# Altium schematic symbol library connecteurs.SchLib: 141 symbols
Pins are listed as number, name and electrical type; pins without a type are passive.

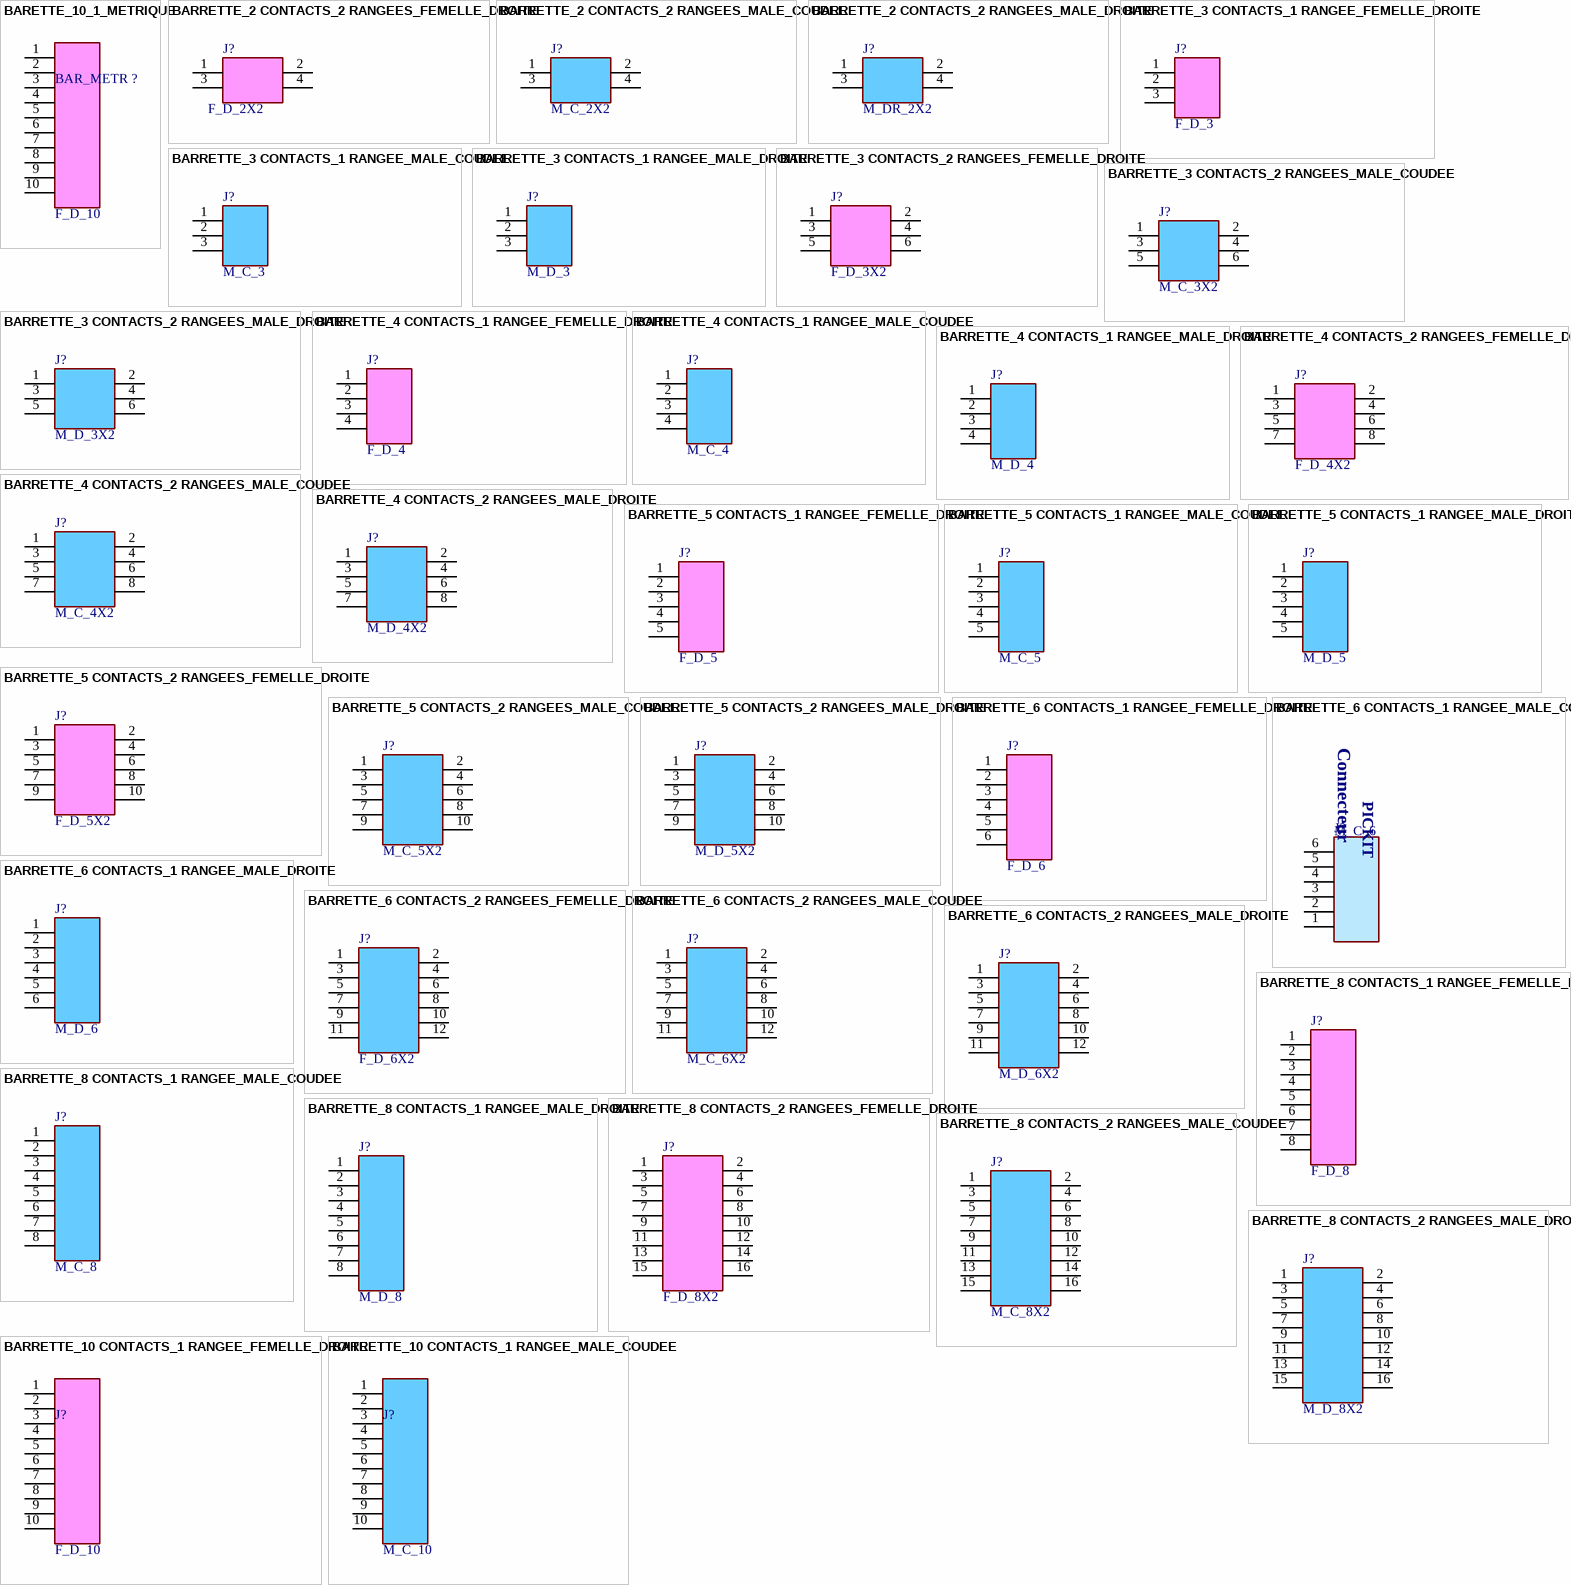
[diagram p0: symbols BARETTE_10_1_METRIQUE to BARRETTE_10 CONTACTS_1 RANGEE_MALE_COUDEE]

## BARETTE_10_1_METRIQUE
designator BAR_METR ?, comment Type: F_D_10  (hidden comment: BARRETTE_10 CONTACTS_1 BARETTE_10_1_METRIQUE)
BARETTE_10_1_METRIQUE
signal-integrity model Connector
footprint BARRETTE_10_F_D (BARRETTE 10 CONTACTS ; 1 RANGEE ; DROITE ; FEMELLE ; ESPACEMENT BROCHES = 2.54 mm)
pins: 1, 2, 3, 4, 5, 6, 7, 8, 9, 10

## BARRETTE_2 CONTACTS_2 RANGEES_FEMELLE_DROITE
designator J?, comment Type: F_D_2X2  (hidden comment: BARRETTE 2 CONTACTS 2 RANGEES FEMELLE DROITE)
signal-integrity model Connector
footprint BARRETTE_2X2_F_D (BARRETTE 2 CONTACTS ; 2 RANGEES ; DROITE ; FEMELLE ; ESPACEMENT BROCHES = 2.54 mm)
pins: 1, 2, 3, 4

## BARRETTE_2 CONTACTS_2 RANGEES_MALE_COUDEE
designator J?, comment Type: M_C_2X2  (hidden comment: BARRETTE 2 CONTACTS 2 RANGEES MALE COUDEE)
signal-integrity model Connector
footprint BARRETTE_2X2_M_C (BARRETTE 2 CONTACTS ; 2 RANGEES ; COUDEE ; MALE ; ESPACEMENT BROCHES = 2.54 mm)
pins: 1, 2, 3, 4

## BARRETTE_2 CONTACTS_2 RANGEES_MALE_DROITE
designator J?, comment Type: M_DR_2X2  (hidden comment: BARRETTE 2 CONTACTS 2 RANGEES MALE DROITE)
signal-integrity model Connector
footprint BARRETTE_2X2_M_D (BARRETTE 2 CONTACTS ; 2 RANGEES ; DROITE ; MALE ; ESPACEMENT BROCHES = 2.54 mm)
pins: 1, 2, 3, 4

## BARRETTE_3 CONTACTS_1 RANGEE_FEMELLE_DROITE
designator J?, comment Type: F_D_3  (hidden comment: BARRETTE 3 CONTACTS 1 RANGEE FEMELLE DROITE)
signal-integrity model Connector
footprint BARRETTE_3_F_D (BARRETTE 3 CONTACTS ; 1 RANGEE ; DROITE ; FEMELLE ; ESPACEMENT BROCHES = 2.54 mm)
pins: 1, 2, 3

## BARRETTE_3 CONTACTS_1 RANGEE_MALE_COUDEE
designator J?, comment Type: M_C_3  (hidden comment: BARRETTE 3 CONTACTS 1 RANGEE MALE COUDEE)
signal-integrity model Connector
footprint BARRETTE_3_M_C (BARRETTE 3 CONTACTS ; 1 RANGEE ; COUDEE ; MALE ; ESPACEMENT BROCHES = 2.54 mm)
pins: 1, 2, 3

## BARRETTE_3 CONTACTS_1 RANGEE_MALE_DROITE
designator J?, comment Type: M_D_3  (hidden comment: BARRETTE 3 CONTACTS 1 RANGEE MALE DROITE)
signal-integrity model Connector
footprint BARRETTE_3_M_D (BARRETTE 3 CONTACTS ; 1 RANGEE ; DROITE ; MALE ; ESPACEMENT BROCHES = 2.54 mm)
pins: 1, 2, 3

## BARRETTE_3 CONTACTS_2 RANGEES_FEMELLE_DROITE
designator J?  Type: F_D_3X2  (hidden comment: BARRETTE_3 CONTACTS_2 RANGEES_FEMELLE_DROITE)
BARRETTE 3 CONTACTS 2 RANGEES FEMELLE DROITE
signal-integrity model Connector
footprint BARRETTE_3X2_F_D (BARRETTE 3 CONTACTS ; 2 RANGEES ; DROITE ; FEMELLE ; ESPACEMENT BROCHES = 2.54 mm)
pins: 1, 2, 3, 4, 5, 6

## BARRETTE_3 CONTACTS_2 RANGEES_MALE_COUDEE
designator J?  Type: M_C_3X2  (hidden comment: BARRETTE_3 CONTACTS_2 RANGEES_MALE_COUDEE)
BARRETTE 3 CONTACTS 2 RANGEES MALE COUDEE
signal-integrity model Connector
footprint BARRETTE_3X2_M_C (BARRETTE 3 CONTACTS ; 2 RANGEES ; COUDEE ; MALE ; ESPACEMENT BROCHES = 2.54 mm)
pins: 1, 2, 3, 4, 5, 6

## BARRETTE_3 CONTACTS_2 RANGEES_MALE_DROITE
designator J?  Type: M_D_3X2  (hidden comment: BARRETTE_3 CONTACTS_2 RANGEES_MALE_DROITE)
BARRETTE 3 CONTACTS 2 RANGEES MALE DROITE
signal-integrity model Connector
footprint BARRETTE_3X2_M_D (BARRETTE 3 CONTACTS ; 2 RANGEES ; DROITE ; MALE ; ESPACEMENT BROCHES = 2.54 mm)
pins: 1, 2, 3, 4, 5, 6

## BARRETTE_4 CONTACTS_1 RANGEE_FEMELLE_DROITE
designator J?  Type: F_D_4  (hidden comment: BARRETTE_4 CONTACTS_1 RANGEE_FEMELLE_DROITE)
BARRETTE 4 CONTACTS 1 RANGEE FEMELLE DROITE
signal-integrity model Connector
footprint BARRETTE_4_F_D (BARRETTE 4 CONTACTS ; 1 RANGEE ; DROITE ; FEMELLE ; ESPACEMENT BROCHES = 2.54 mm)
pins: 1, 2, 3, 4

## BARRETTE_4 CONTACTS_1 RANGEE_MALE_COUDEE
designator J?  Type: M_C_4  (hidden comment: BARRETTE_4 CONTACTS_1 RANGEE_MALE_COUDEE)
BARRETTE 4 CONTACTS 1 RANGEE MALE COUDEE
signal-integrity model Connector
footprint BARRETTE_4_M_C (BARRETTE 4 CONTACTS ; 1 RANGEE ; COUDEE ; MALE ; ESPACEMENT BROCHES = 2.54 mm)
pins: 1, 2, 3, 4

## BARRETTE_4 CONTACTS_1 RANGEE_MALE_DROITE
designator J?  Type: M_D_4  (hidden comment: BARRETTE_4 CONTACTS_1 RANGEE_MALE_DROITE)
BARRETTE 4 CONTACTS 1 RANGEE MALE DROITE
signal-integrity model Connector
footprint BARRETTE_4_M_D (BARRETTE 4 CONTACTS ; 1 RANGEE ; DROIT ; MALE ; ESPACEMENT BROCHES = 2.54 mm)
pins: 1, 2, 3, 4

## BARRETTE_4 CONTACTS_2 RANGEES_FEMELLE_DROITEE
designator J?, comment Type: F_D_4X2  (hidden comment: BARRETTE_4 CONTACTS_2 RANGEES_FEMELLE_DROITE)
BARRETTE 4 CONTACTS 2 RANGEES FEMELLE DROITE
signal-integrity model Connector
footprint BARRETTE_4X2_F_D (BARRETTE 4 CONTACTS ; 2 RANGEES ; DROITE ; FEMELLE ; ESPACEMENT BROCHES = 2.54 mm)
pins: 1, 2, 3, 4, 5, 6, 7, 8

## BARRETTE_4 CONTACTS_2 RANGEES_MALE_COUDEE
designator J?  Type: M_C_4X2  (hidden comment: BARRETTE_4 CONTACTS_2 RANGEES_MALE_COUDEE)
BARRETTE 4 CONTACTS 2 RANGEES MALE COUDEE
signal-integrity model Connector
footprint BARRETTE_4X2_M_C (BARRETTE 4 CONTACTS ; 2 RANGEES ; COUDEE ; MALE ; ESPACEMENT BROCHES = 2.54 mm)
pins: 1, 2, 3, 4, 5, 6, 7, 8

## BARRETTE_4 CONTACTS_2 RANGEES_MALE_DROITE
designator J?  Type: M_D_4X2  (hidden comment: BARRETTE_4 CONTACTS_2 RANGEES_MALE_DROITE)
BARRETTE 4 CONTACTS 2 RANGEES MALE DROITE
signal-integrity model Connector
footprint BARRETTE_4X2_M_D (BARRETTE 4 CONTACTS ; 2 RANGEES ; DROITE ; MALE ; ESPACEMENT BROCHES = 2.54 mm)
pins: 1, 2, 3, 4, 5, 6, 7, 8

## BARRETTE_5 CONTACTS_1 RANGEE_FEMELLE_DROITE
designator J?  Type: F_D_5  (hidden comment: BARRETTE_5 CONTACTS_1 RANGEE_FEMELLE_DROITE)
BARRETTE 5 CONTACTS 1 RANGEE FEMELLE DROITE
signal-integrity model Connector
footprint BARRETTE_5_F_D (BARRETTE 5 CONTACTS ; 1 RANGEE ; DROITE ; FEMELLE ; ESPACEMENT BROCHES = 2.54 mm)
pins: 1, 2, 3, 4, 5

## BARRETTE_5 CONTACTS_1 RANGEE_MALE_COUDEE
designator J?  Type: M_C_5  (hidden comment: BARRETTE_5 CONTACTS_1 RANGEE_MALE_COUDEE)
BARRETTE 5 CONTACTS 1 RANGEE MALE COUDEE
signal-integrity model Connector
footprint BARRETTE_5_M_C (BARRETTE 5 CONTACTS ; 1 RANGEE ; COUDEE ; MALE ; ESPACEMENT BROCHES = 2.54 mm)
pins: 1, 2, 3, 4, 5

## BARRETTE_5 CONTACTS_1 RANGEE_MALE_DROITE
designator J?  Type: M_D_5  (hidden comment: BARRETTE_5 CONTACTS_1 RANGEE_MALE_DROITE)
BARRETTE 5 CONTACTS 1 RANGEE MALE DROITE
signal-integrity model Connector
footprint BARRETTE_5_M_D (BARRETTE 5 CONTACTS ; 1 RANGEE ; DROITE ; MALE ; ESPACEMENT BROCHES = 2.54 mm)
pins: 1, 2, 3, 4, 5

## BARRETTE_5 CONTACTS_2 RANGEES_FEMELLE_DROITE
designator J?  Type: F_D_5X2  (hidden comment: BARRETTE_5 CONTACTS_2 RANGEES_FEMELLE_DROITE)
BARRETTE 5 CONTACTS 2 RANGEES FEMELLE DROITE
signal-integrity model Connector
footprint BARRETTE_5X2_F_D (BARRETTE 5 CONTACTS ; 2 RANGEES ; DROITE ; FEMELLE ; ESPACEMENT BROCHES = 2.54 mm)
pins: 1, 2, 3, 4, 5, 6, 7, 8, 9, 10

## BARRETTE_5 CONTACTS_2 RANGEES_MALE_COUDEE
designator J?  Type: M_C_5X2  (hidden comment: BARRETTE_5 CONTACTS_2 RANGEES_MALE_COUDEE)
BARRETTE 5 CONTACTS 2 RANGEES MALE COUDEE
signal-integrity model Connector
footprint BARRETTE_5X2_M_C (BARRETTE 5 CONTACTS ; 2 RANGEES ; COUDEE ; MALE ; ESPACEMENT BROCHES = 2.54 mm)
pins: 1, 2, 3, 4, 5, 6, 7, 8, 9, 10

## BARRETTE_5 CONTACTS_2 RANGEES_MALE_DROITE
designator J?  Type: M_D_5X2  (hidden comment: BARRETTE_5 CONTACTS_2 RANGEES_MALE_DROITE)
BARRETTE 5 CONTACTS 2 RANGEES MALE DROITE
signal-integrity model Connector
footprint BARRETTE_5X2_M_D (BARRETTE 5 CONTACTS ; 2 RANGEES ; DROITE ; MALE ; ESPACEMENT BROCHES = 2.54 mm)
pins: 1, 2, 3, 4, 5, 6, 7, 8, 9, 10

## BARRETTE_6 CONTACTS_1 RANGEE_FEMELLE_DROITE
designator J?  Type: F_D_6  (hidden comment: BARRETTE_6 CONTACTS_1 RANGEE_FEMELLE_DROITE)
BARRETTE 6 CONTACTS 1 RANGEE FEMELLE DROITE
signal-integrity model Connector
footprint BARRETTE_6_F_D (BARRETTE 6 CONTACTS ; 1 RANGEE ; DROITE ; FEMELLE ; ESPACEMENT BROCHES = 2.54 mm)
pins: 1, 2, 3, 4, 5, 6

## BARRETTE_6 CONTACTS_1 RANGEE_MALE_COUDEE
designator J?  Type: M_C_6  (hidden comment: BARRETTE_6 CONTACTS_1 RANGEE_MALE_COUDEE)
BARRETTE 6 CONTACTS 1 RANGEE MALE COUDEE
signal-integrity model Connector
footprint BARRETTE_6_M_C (BARRETTE 6 CONTACTS ; 1 RANGEE ; COUDEE ; MALE ; ESPACEMENT BROCHES = 2.54 mm)
pins: 1, 2, 3, 4, 5, 6
text: Connecteur; PICKIT

## BARRETTE_6 CONTACTS_1 RANGEE_MALE_DROITE
designator J?  Type: M_D_6  (hidden comment: BARRETTE_6 CONTACTS_1 RANGEE_MALE_DROITE)
BARRETTE 6 CONTACTS 1 RANGEE MALE DROITE
signal-integrity model Connector
footprint BARRETTE_6_M_D (BARRETTE 6 CONTACTS ; 1 RANGEE ; DROITE ; MALE ; ESPACEMENT BROCHES = 2.54 mm)
pins: 1, 2, 3, 4, 5, 6

## BARRETTE_6 CONTACTS_2 RANGEES_FEMELLE_DROITE
designator J?  Type: F_D_6X2  (hidden comment: BARRETTE_6 CONTACTS_2 RANGEES_FEMELLE_DROITE)
BARRETTE 6 CONTACTS 2 RANGEES FEMELLE DROITE
signal-integrity model Connector
footprint BARRETTE_6X2_F_D (BARRETTE 6 CONTACTS ; 2 RANGEES ; DROITE ; FEMELLE ; ESPACEMENT BROCHES = 2.54 mm)
pins: 1, 2, 3, 4, 5, 6, 7, 8, 9, 10, 11, 12

## BARRETTE_6 CONTACTS_2 RANGEES_MALE_COUDEE
designator J?  Type: M_C_6X2  (hidden comment: BARRETTE_6 CONTACTS_2 RANGEES_MALE_COUDEE)
BARRETTE 6 CONTACTS 2 RANGEES MALE COUDEE
signal-integrity model Connector
footprint BARRETTE_6X2_M_C (BARRETTE 6 CONTACTS ; 2 RANGEES ; COUDEE ; MALE ; ESPACEMENT BROCHES = 2.54 mm)
pins: 1, 2, 3, 4, 5, 6, 7, 8, 9, 10, 11, 12

## BARRETTE_6 CONTACTS_2 RANGEES_MALE_DROITE
designator J?  Type: M_D_6X2  (hidden comment: BARRETTE_6 CONTACTS_2 RANGEES_MALE_DROITE)
BARRETTE 6 CONTACTS 2 RANGEES MALE DROITE
signal-integrity model Connector
footprint BARRETTE_6X2_M_D (BARRETTE 6 CONTACTS ; 2 RANGEES ; DROITE ; MALE ; ESPACEMENT BROCHES = 2.54 mm)
pins: 1, 2, 3, 4, 5, 6, 7, 8, 9, 10, 11, 12

## BARRETTE_8 CONTACTS_1 RANGEE_FEMELLE_DROITE
designator J?  Type: F_D_8  (hidden comment: BARRETTE_8 CONTACTS_1 RANGEE_FEMELLE_DROITE)
signal-integrity model Connector
footprint BARRETTE_8_F_D (BARRETTE 8 CONTACTS ; 1 RANGEE ; DROITE ; FEMELLE ; ESPACEMENT BROCHES = 2.54 mm)
pins: 1, 2, 3, 4, 5, 6, 7, 8

## BARRETTE_8 CONTACTS_1 RANGEE_MALE_COUDEE
designator J?  Type: M_C_8  (hidden comment: BARRETTE_8 CONTACTS_1 RANGEE_MALE_COUDEE)
signal-integrity model Connector
footprint BARRETTE_8_M_C (BARRETTE 8 CONTACTS ; 1 RANGEE ; COUDEE ; MALE ; ESPACEMENT BROCHES = 2.54 mm)
pins: 1, 2, 3, 4, 5, 6, 7, 8

## BARRETTE_8 CONTACTS_1 RANGEE_MALE_DROITE
designator J?  Type: M_D_8  (hidden comment: BARRETTE_8 CONTACTS_1 RANGEE_MALE_DROITE)
signal-integrity model Connector
footprint BARRETTE_8_M_D (BARRETTE 8 CONTACTS ; 1 RANGEE ; DROITE ; MALE ; ESPACEMENT BROCHES = 2.54 mm)
pins: 1, 2, 3, 4, 5, 6, 7, 8

## BARRETTE_8 CONTACTS_2 RANGEES_FEMELLE_DROITE
designator J?  Type: F_D_8X2  (hidden comment: BARRETTE_8 CONTACTS_2 RANGEES_FEMELLE_DROITE)
signal-integrity model Connector
footprint BARRETTE_8X2_F_D (BARRETTE 8 CONTACTS ; 2 RANGEES ; DROITE ; FEMELLE ; ESPACEMENT BROCHES = 2.54 mm)
pins: 1, 2, 3, 4, 5, 6, 7, 8, 9, 10, 11, 12, 13, 14, 15, 16

## BARRETTE_8 CONTACTS_2 RANGEES_MALE_COUDEE
designator J?  Type: M_C_8X2  (hidden comment: BARRETTE_8 CONTACTS_2 RANGEES_MALE_COUDEE)
signal-integrity model Connector
footprint BARRETTE_8X2_M_C (BARRETTE 8 CONTACTS ; 2 RANGEES ; COUDEE ; MALE ; ESPACEMENT BROCHES = 2.54 mm)
pins: 1, 2, 3, 4, 5, 6, 7, 8, 9, 10, 11, 12, 13, 14, 15, 16

## BARRETTE_8 CONTACTS_2 RANGEES_MALE_DROITE
designator J?  Type: M_D_8X2  (hidden comment: BARRETTE_8 CONTACTS_2 RANGEES_MALE_DROITE)
signal-integrity model Connector
footprint BARRETTE_8X2_M_D (BARRETTE 8 CONTACTS ; 2 RANGEES ; DROITE ; MALE ; ESPACEMENT BROCHES = 2.54 mm)
pins: 1, 2, 3, 4, 5, 6, 7, 8, 9, 10, 11, 12, 13, 14, 15, 16

## BARRETTE_10 CONTACTS_1 RANGEE_FEMELLE_DROITE
designator J?  Type: F_D_10  (hidden comment: BARRETTE_10 CONTACTS_1 RANGEE_FEMELLE_DROITE)
signal-integrity model Connector
footprint BARRETTE_10_F_D (BARRETTE 10 CONTACTS ; 1 RANGEE ; DROITE ; FEMELLE ; ESPACEMENT BROCHES = 2.54 mm)
pins: 1, 2, 3, 4, 5, 6, 7, 8, 9, 10

## BARRETTE_10 CONTACTS_1 RANGEE_MALE_COUDEE
designator J?  Type: M_C_10  (hidden comment: BARRETTE_10 CONTACTS_1 RANGEE_MALE_COUDEE)
signal-integrity model Connector
footprint BARRETTE_10_M_C (BARRETTE 10 CONTACTS ; 1 RANGEE ; COUDEE ; MALE ; ESPACEMENT BROCHES = 2.54 mm)
pins: 1, 2, 3, 4, 5, 6, 7, 8, 9, 10

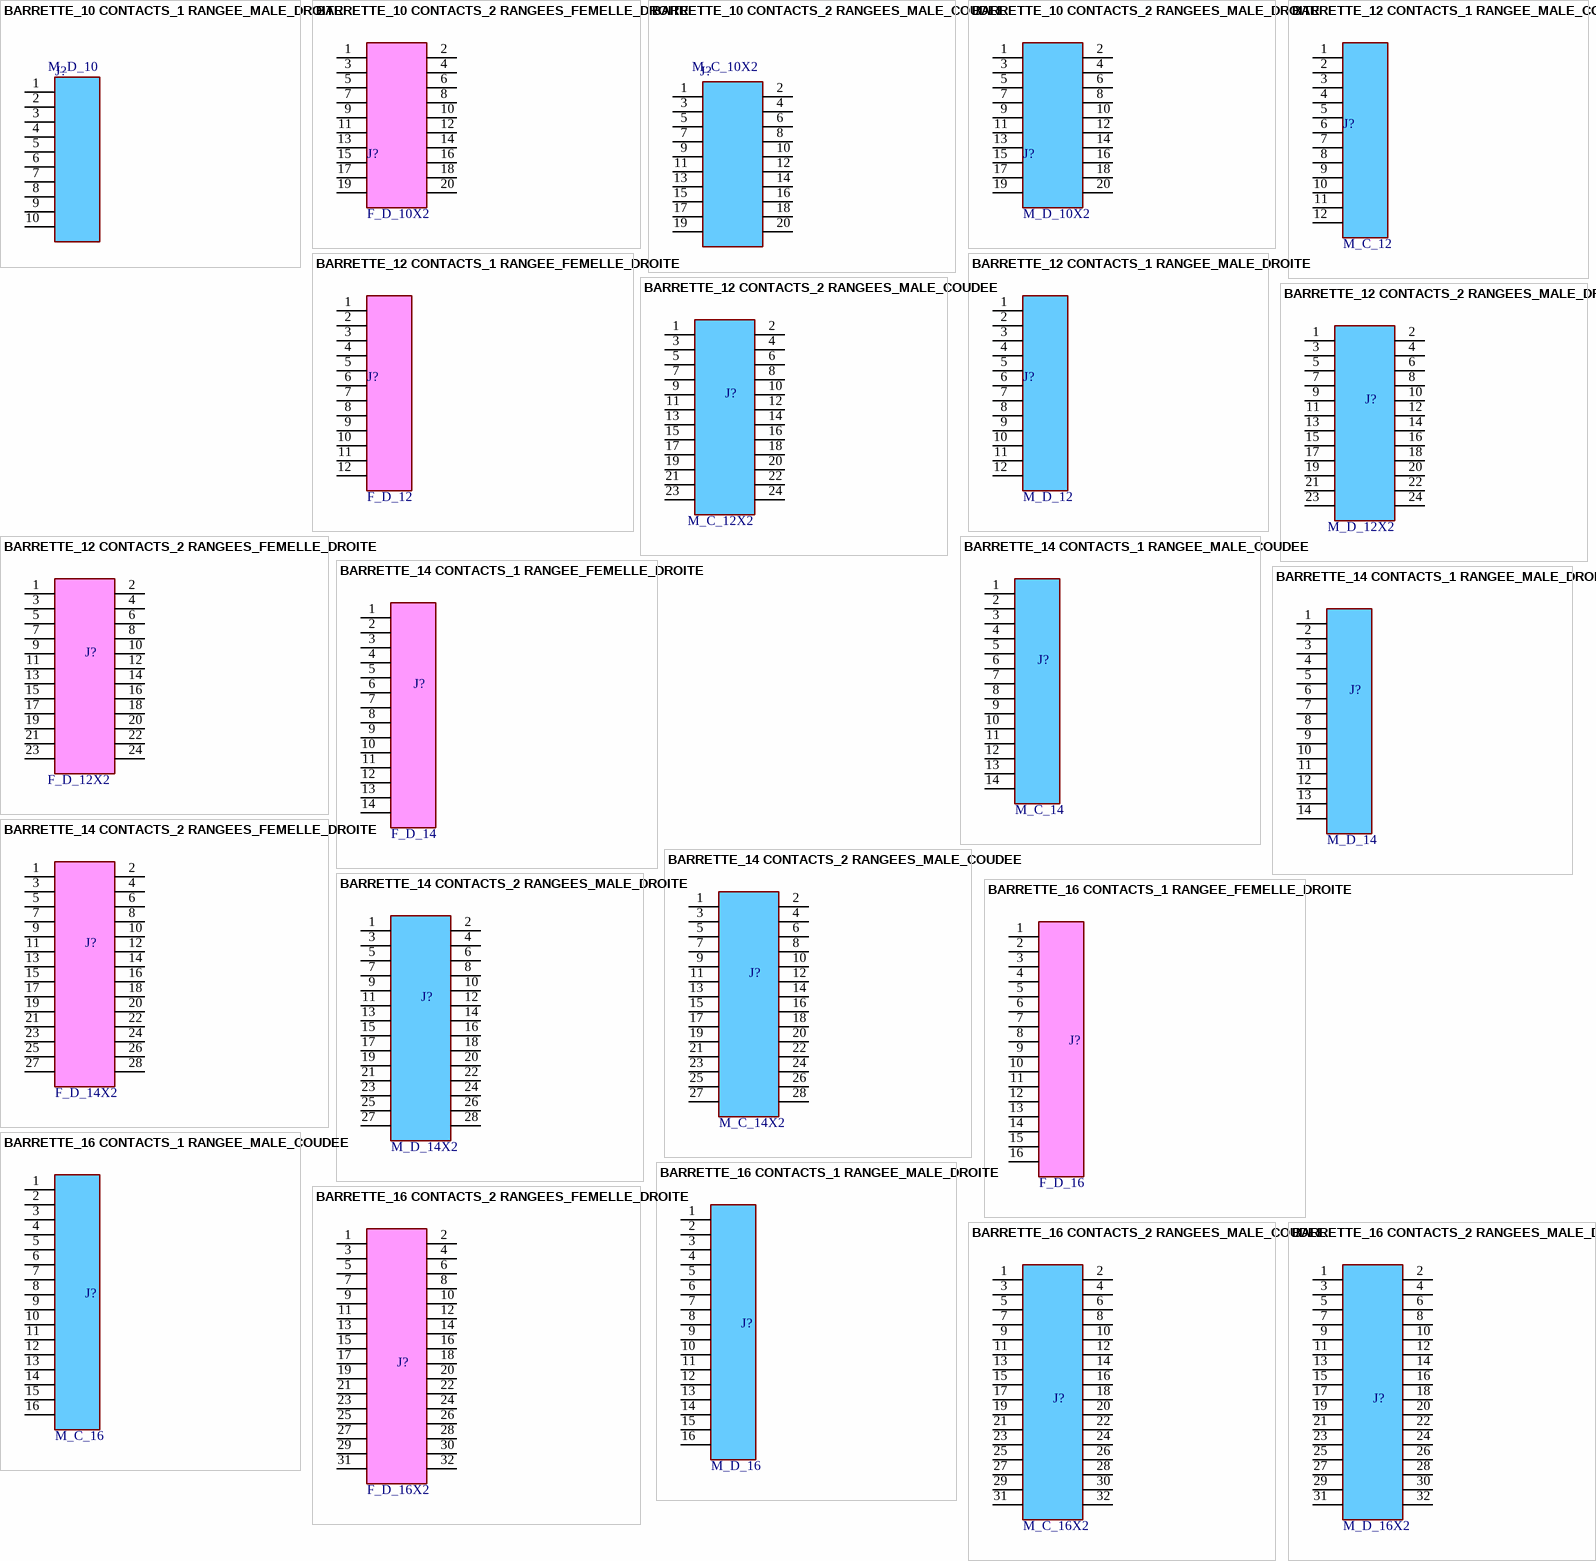
[diagram p1: symbols BARRETTE_10 CONTACTS_1 RANGEE_MALE_DROITE to BARRETTE_16 CONTACTS_2 RANGEES_MALE_DROITE]

## BARRETTE_10 CONTACTS_1 RANGEE_MALE_DROITE
designator J?  Type: M_D_10  (hidden comment: BARRETTE_10 CONTACTS_1 RANGEE_MALE_DROITE)
signal-integrity model Connector
footprint BARRETTE_10_M_D (BARRETTE 10 CONTACTS ; 1 RANGEE ; DROITE ; MALE ; ESPACEMENT BROCHES = 2.54 mm)
pins: 1, 2, 3, 4, 5, 6, 7, 8, 9, 10

## BARRETTE_10 CONTACTS_2 RANGEES_FEMELLE_DROITE
designator J?  Type: F_D_10X2  (hidden comment: BARRETTE_10 CONTACTS_2 RANGEES_FEMELLE_DROITE)
signal-integrity model Connector
footprint BARRETTE_10X2_F_D (BARRETTE 10 CONTACTS ; 2 RANGEES ; DROITE ; FEMELLE ; ESPACEMENT BROCHES = 2.54 mm)
pins: 1, 2, 3, 4, 5, 6, 7, 8, 9, 10, 11, 12, 13, 14, 15, 16, 17, 18, 19, 20

## BARRETTE_10 CONTACTS_2 RANGEES_MALE_COUDEE
designator J?  Type: M_C_10X2  (hidden comment: BARRETTE_10 CONTACTS_2 RANGEES_MALE_COUDEE)
signal-integrity model Connector
footprint BARRETTE_10X2_M_C (BARRETTE 10 CONTACTS ; 2 RANGEES ; COUDEE ; MALE ; ESPACEMENT BROCHES = 2.54 mm)
pins: 1, 2, 3, 4, 5, 6, 7, 8, 9, 10, 11, 12, 13, 14, 15, 16, 17, 18, 19, 20

## BARRETTE_10 CONTACTS_2 RANGEES_MALE_DROITE
designator J?  Type: M_D_10X2  (hidden comment: BARRETTE_10 CONTACTS_2 RANGEES_MALE_DROITE)
signal-integrity model Connector
footprint BARRETTE_10X2_M_D (BARRETTE 10 CONTACTS ; 2 RANGEES ; DROITE ; MALE ; ESPACEMENT BROCHES = 2.54 mm)
pins: 1, 2, 3, 4, 5, 6, 7, 8, 9, 10, 11, 12, 13, 14, 15, 16, 17, 18, 19, 20

## BARRETTE_12 CONTACTS_1 RANGEE_FEMELLE_DROITE
designator J?  Type: F_D_12  (hidden comment: BARRETTE_12 CONTACTS_1 RANGEE_FEMELLE_DROITE)
signal-integrity model Connector
footprint BARRETTE_12_F_D (BARRETTE 12 CONTACTS ; 1 RANGEE ; DROITE ; FEMELLE ; ESPACEMENT BROCHES = 2.54 mm)
pins: 1, 2, 3, 4, 5, 6, 7, 8, 9, 10, 11, 12

## BARRETTE_12 CONTACTS_1 RANGEE_MALE_COUDEE
designator J?  Type: M_C_12  (hidden comment: BARRETTE_12 CONTACTS_1 RANGEE_MALE_COUDEE)
signal-integrity model Connector
footprint BARRETTE_12_M_C (BARRETTE 12 CONTACTS ; 1 RANGEE ; COUDEE ; MALE ; ESPACEMENT BROCHES = 2.54 mm)
pins: 1, 2, 3, 4, 5, 6, 7, 8, 9, 10, 11, 12

## BARRETTE_12 CONTACTS_1 RANGEE_MALE_DROITE
designator J?  Type: M_D_12  (hidden comment: BARRETTE_12 CONTACTS_1 RANGEE_MALE_DROITE)
signal-integrity model Connector
footprint BARRETTE_12_M_D (BARRETTE 12 CONTACTS ; 1 RANGEE ; DROITE ; MALE ; ESPACEMENT BROCHES = 2.54 mm)
pins: 1, 2, 3, 4, 5, 6, 7, 8, 9, 10, 11, 12

## BARRETTE_12 CONTACTS_2 RANGEES_FEMELLE_DROITE
designator J?  Type: F_D_12X2  (hidden comment: BARRETTE_12 CONTACTS_2 RANGEES_FEMELLE_DROITE)
signal-integrity model Connector
footprint BARRETTE_12X2_F_D (BARRETTE 12 CONTACTS ; 2 RANGEES ; DROITE ; FEMELLE ; ESPACEMENT BROCHES = 2.54 mm)
pins: 1, 2, 3, 4, 5, 6, 7, 8, 9, 10, 11, 12, 13, 14, 15, 16, 17, 18, 19, 20, 21, 22, 23, 24

## BARRETTE_12 CONTACTS_2 RANGEES_MALE_COUDEE
designator J?  Type: M_C_12X2  (hidden comment: BARRETTE_12 CONTACTS_2 RANGEES_MALE_COUDEE)
signal-integrity model Connector
footprint BARRETTE_12X2_M_C (BARRETTE 12 CONTACTS ; 2 RANGEES ; COUDEE ; MALE ; ESPACEMENT BROCHES = 2.54 mm)
pins: 1, 2, 3, 4, 5, 6, 7, 8, 9, 10, 11, 12, 13, 14, 15, 16, 17, 18, 19, 20, 21, 22, 23, 24

## BARRETTE_12 CONTACTS_2 RANGEES_MALE_DROITE
designator J?  Type: M_D_12X2  (hidden comment: BARRETTE_12 CONTACTS_2 RANGEES_MALE_DROITE)
signal-integrity model Connector
footprint BARRETTE_12X2_M_D (BARRETTE 12 CONTACTS ; 2 RANGEES ; DROITE ; MALE ; ESPACEMENT BROCHES = 2.54 mm)
pins: 1, 2, 3, 4, 5, 6, 7, 8, 9, 10, 11, 12, 13, 14, 15, 16, 17, 18, 19, 20, 21, 22, 23, 24

## BARRETTE_14 CONTACTS_1 RANGEE_FEMELLE_DROITE
designator J?  Type: F_D_14  (hidden comment: BARRETTE_14 CONTACTS_1 RANGEE_FEMELLE_DROITE)
signal-integrity model Connector
footprint BARRETTE_14_F_D (BARRETTE 14 CONTACTS ; 1 RANGEE ; DROITE ; FEMELLE ; ESPACEMENT BROCHES = 2.54 mm)
pins: 1, 2, 3, 4, 5, 6, 7, 8, 9, 10, 11, 12, 13, 14

## BARRETTE_14 CONTACTS_1 RANGEE_MALE_COUDEE
designator J?  Type: M_C_14  (hidden comment: BARRETTE_14 CONTACTS_1 RANGEE_MALE_COUDEE)
signal-integrity model Connector
footprint BARRETTE_14_M_C (BARRETTE 14 CONTACTS ; 1 RANGEE ; COUDEE ; MALE ; ESPACEMENT BROCHES = 2.54 mm)
pins: 1, 2, 3, 4, 5, 6, 7, 8, 9, 10, 11, 12, 13, 14

## BARRETTE_14 CONTACTS_1 RANGEE_MALE_DROITE
designator J?  Type: M_D_14  (hidden comment: BARRETTE_14 CONTACTS_1 RANGEE_MALE_DROITE)
signal-integrity model Connector
footprint BARRETTE_14_M_D (BARRETTE 14 CONTACTS ; 1 RANGEE ; DROITE ; MALE ; ESPACEMENT BROCHES = 2.54 mm)
pins: 1, 2, 3, 4, 5, 6, 7, 8, 9, 10, 11, 12, 13, 14

## BARRETTE_14 CONTACTS_2 RANGEES_FEMELLE_DROITE
designator J?  Type: F_D_14X2  (hidden comment: BARRETTE_14 CONTACTS_2 RANGEES_FEMELLE_DROITE)
signal-integrity model Connector
footprint BARRETTE_14X2_F_D (BARRETTE 14 CONTACTS ; 2 RANGEES ; DROITE ; FEMELLE ; ESPACEMENT BROCHES = 2.54 mm)
pins: 1, 2, 3, 4, 5, 6, 7, 8, 9, 10, 11, 12, 13, 14, 15, 16, 17, 18, 19, 20, 21, 22, 23, 24, 25, 26, 27, 28

## BARRETTE_14 CONTACTS_2 RANGEES_MALE_COUDEE
designator J?  Type: M_C_14X2  (hidden comment: BARRETTE_14 CONTACTS_2 RANGEES_MALE_COUDEE)
signal-integrity model Connector
footprint BARRETTE_14X2_M_C (BARRETTE 14 CONTACTS ; 2 RANGEES ; COUDEE ; MALE ; ESPACEMENT BROCHES = 2.54 mm)
pins: 1, 2, 3, 4, 5, 6, 7, 8, 9, 10, 11, 12, 13, 14, 15, 16, 17, 18, 19, 20, 21, 22, 23, 24, 25, 26, 27, 28

## BARRETTE_14 CONTACTS_2 RANGEES_MALE_DROITE
designator J?  Type: M_D_14X2  (hidden comment: BARRETTE_14 CONTACTS_2 RANGEES_MALE_DROITE)
signal-integrity model Connector
footprint BARRETTE_14X2_M_D (BARRETTE 14 CONTACTS ; 2 RANGEES ; DROITE ; MALE ; ESPACEMENT BROCHES = 2.54 mm)
pins: 1, 2, 3, 4, 5, 6, 7, 8, 9, 10, 11, 12, 13, 14, 15, 16, 17, 18, 19, 20, 21, 22, 23, 24, 25, 26, 27, 28

## BARRETTE_16 CONTACTS_1 RANGEE_FEMELLE_DROITE
designator J?  Type: F_D_16  (hidden comment: BARRETTE_16 CONTACTS_1 RANGEE_FEMELLE_DROITE)
signal-integrity model Connector
footprint BARRETTE_16_F_D (BARRETTE 16 CONTACTS ; 1 RANGEE ; DROITEE ; FEMELLE ; ESPACEMENT BROCHES = 2.54 mm)
pins: 1, 2, 3, 4, 5, 6, 7, 8, 9, 10, 11, 12, 13, 14, 15, 16

## BARRETTE_16 CONTACTS_1 RANGEE_MALE_COUDEE
designator J?  Type: M_C_16  (hidden comment: BARRETTE_16 CONTACTS_1 RANGEE_MALE_COUDEE)
signal-integrity model Connector
footprint BARRETTE_16_M_C (BARRETTE 16 CONTACTS ; 1 RANGEE ; COUDEE ; MALE ; ESPACEMENT BROCHES = 2.54 mm)
pins: 1, 2, 3, 4, 5, 6, 7, 8, 9, 10, 11, 12, 13, 14, 15, 16

## BARRETTE_16 CONTACTS_1 RANGEE_MALE_DROITE
designator J?  Type: M_D_16  (hidden comment: BARRETTE_16 CONTACTS_1 RANGEE_MALE_DROITE)
signal-integrity model Connector
footprint BARRETTE_16_M_D (BARRETTE 16 CONTACTS ; 1 RANGEE ; DROITE ; MALE ; ESPACEMENT BROCHES = 2.54 mm)
pins: 1, 2, 3, 4, 5, 6, 7, 8, 9, 10, 11, 12, 13, 14, 15, 16

## BARRETTE_16 CONTACTS_2 RANGEES_FEMELLE_DROITE
designator J?  Type: F_D_16X2  (hidden comment: BARRETTE_16 CONTACTS_2 RANGEES_FEMELLE_DROITE)
signal-integrity model Connector
footprint BARRETTE_16X2_F_D (BARRETTE 16 CONTACTS ; 2 RANGEES ; DROITE ; FEMELLE ; ESPACEMENT BROCHES = 2.54 mm)
pins: 1, 2, 3, 4, 5, 6, 7, 8, 9, 10, 11, 12, 13, 14, 15, 16, 17, 18, 19, 20, 21, 22, 23, 24, 25, 26, 27, 28, 29, 30, 31, 32

## BARRETTE_16 CONTACTS_2 RANGEES_MALE_COUDEE
designator J?  Type: M_C_16X2  (hidden comment: BARRETTE_16 CONTACTS_2 RANGEES_MALE_COUDEE)
signal-integrity model Connector
footprint BARRETTE_16X2_M_C (BARRETTE 16 CONTACTS ; 2 RANGEES ; COUDEE ; MALE ; ESPACEMENT BROCHES = 2.54 mm)
pins: 1, 2, 3, 4, 5, 6, 7, 8, 9, 10, 11, 12, 13, 14, 15, 16, 17, 18, 19, 20, 21, 22, 23, 24, 25, 26, 27, 28, 29, 30, 31, 32

## BARRETTE_16 CONTACTS_2 RANGEES_MALE_DROITE
designator J?  Type: M_D_16X2  (hidden comment: BARRETTE_16 CONTACTS_2 RANGEES_MALE_DROITE)
signal-integrity model Connector
footprint BARRETTE_16X2_M_D (BARRETTE 16 CONTACTS ; 2 RANGEES ; DROITE ; MALE ; ESPACEMENT BROCHES = 2.54 mm)
pins: 1, 2, 3, 4, 5, 6, 7, 8, 9, 10, 11, 12, 13, 14, 15, 16, 17, 18, 19, 20, 21, 22, 23, 24, 25, 26, 27, 28, 29, 30, 31, 32

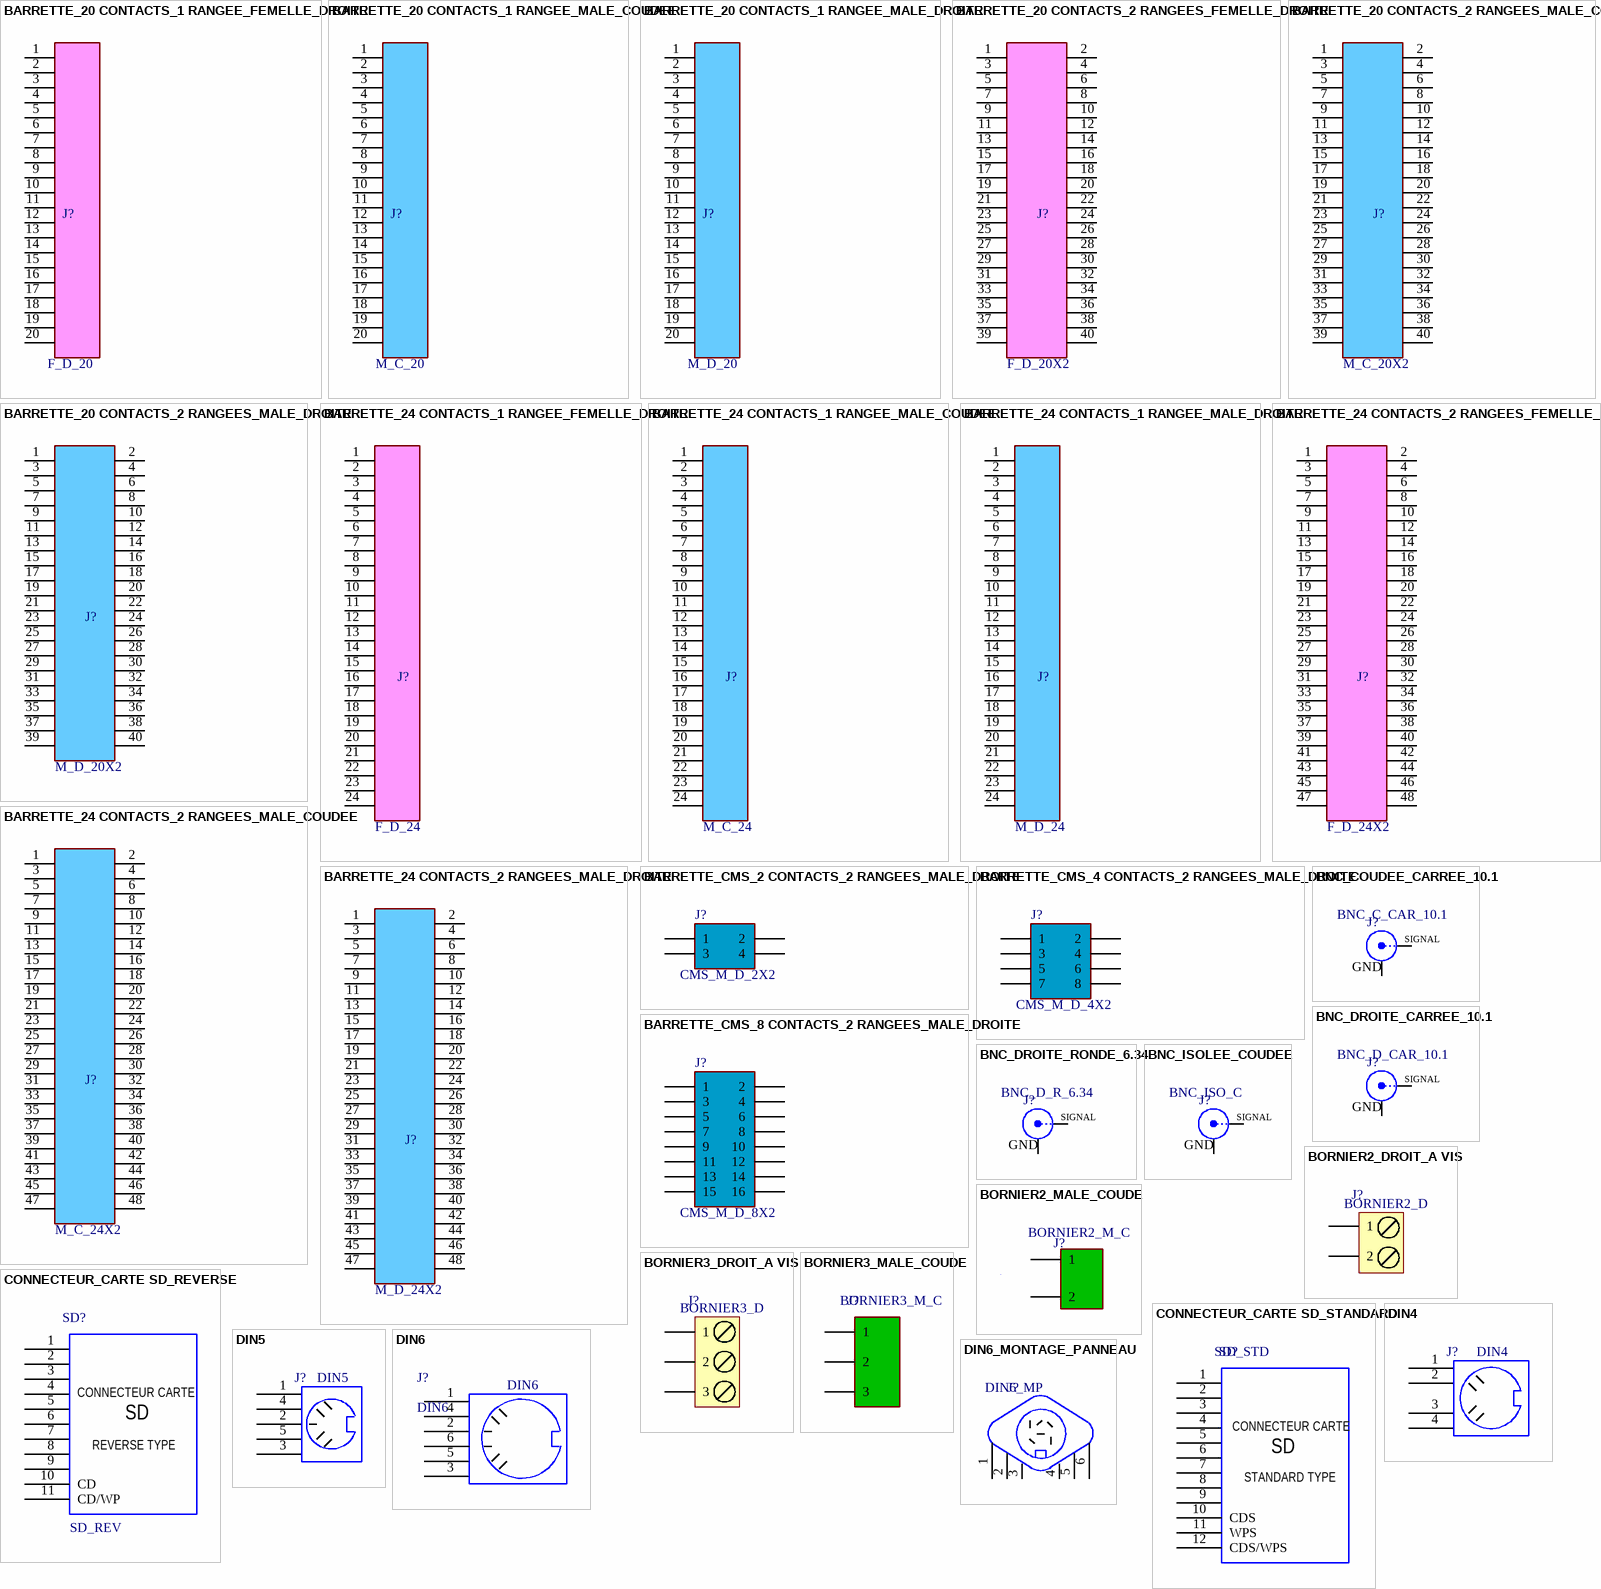
[diagram p2: symbols BARRETTE_20 CONTACTS_1 RANGEE_FEMELLE_DROITE to DIN6_MONTAGE_PANNEAU]

## BARRETTE_20 CONTACTS_1 RANGEE_FEMELLE_DROITE
designator J?  Type: F_D_20  (hidden comment: BARRETTE_20 CONTACTS_1 RANGEE_FEMELLE_DROITE)
signal-integrity model Connector
footprint BARRETTE_20_F_D (BARRETTE 20 CONTACTS ; 1 RANGEE ; DROITE ; FEMELLE ; ESPACEMENT BROCHES = 2.54 mm)
pins: 1, 2, 3, 4, 5, 6, 7, 8, 9, 10, 11, 12, 13, 14, 15, 16, 17, 18, 19, 20

## BARRETTE_20 CONTACTS_1 RANGEE_MALE_COUDEE
designator J?  Type: M_C_20  (hidden comment: BARRETTE_20 CONTACTS_1 RANGEE_MALE_COUDEE)
signal-integrity model Connector
footprint BARRETTE_20_M_C (BARRETTE 20 CONTACTS ; 1 RANGEE ; COUDEE ; MALE ; ESPACEMENT BROCHES = 2.54 mm)
pins: 1, 2, 3, 4, 5, 6, 7, 8, 9, 10, 11, 12, 13, 14, 15, 16, 17, 18, 19, 20

## BARRETTE_20 CONTACTS_1 RANGEE_MALE_DROITE
designator J?  Type: M_D_20  (hidden comment: BARRETTE_20 CONTACTS_1 RANGEE_MALE_DROITE)
signal-integrity model Connector
footprint BARRETTE_20_M_D (BARRETTE 20 CONTACTS ; 1 RANGEE ; DROITE ; MALE ; ESPACEMENT BROCHES = 2.54 mm)
pins: 1, 2, 3, 4, 5, 6, 7, 8, 9, 10, 11, 12, 13, 14, 15, 16, 17, 18, 19, 20

## BARRETTE_20 CONTACTS_2 RANGEES_FEMELLE_DROITE
designator J?  Type: F_D_20X2  (hidden comment: BARRETTE_20 CONTACTS_2 RANGEES_FEMELLE_DROITE)
signal-integrity model Connector
footprint BARRETTE_20X2_F_D (BARRETTE 20 CONTACTS ; 2 RANGEES ; DROITE ; FEMELLE ; ESPACEMENT BROCHES = 2.54 mm)
pins: 1, 2, 3, 4, 5, 6, 7, 8, 9, 10, 11, 12, 13, 14, 15, 16, 17, 18, 19, 20, 21, 22, 23, 24, 25, 26, 27, 28, 29, 30, 31, 32, 33, 34, 35, 36, 37, 38, 39, 40

## BARRETTE_20 CONTACTS_2 RANGEES_MALE_COUDEE
designator J?  Type: M_C_20X2  (hidden comment: BARRETTE_20 CONTACTS_2 RANGEES_MALE_COUDEE)
signal-integrity model Connector
footprint BARRETTE_20X2_M_C (BARRETTE 20 CONTACTS ; 2 RANGEES ; COUDEE ; MALE ; ESPACEMENT BROCHES = 2.54 mm)
pins: 1, 2, 3, 4, 5, 6, 7, 8, 9, 10, 11, 12, 13, 14, 15, 16, 17, 18, 19, 20, 21, 22, 23, 24, 25, 26, 27, 28, 29, 30, 31, 32, 33, 34, 35, 36, 37, 38, 39, 40

## BARRETTE_20 CONTACTS_2 RANGEES_MALE_DROITE
designator J?  Type: M_D_20X2  (hidden comment: BARRETTE_20 CONTACTS_2 RANGEES_MALE_DROITE)
signal-integrity model Connector
footprint BARRETTE_20X2_M_D (BARRETTE 20 CONTACTS ; 2 RANGEES ; DROITE ; MALE ; ESPACEMENT BROCHES = 2.54 mm)
pins: 1, 2, 3, 4, 5, 6, 7, 8, 9, 10, 11, 12, 13, 14, 15, 16, 17, 18, 19, 20, 21, 22, 23, 24, 25, 26, 27, 28, 29, 30, 31, 32, 33, 34, 35, 36, 37, 38, 39, 40

## BARRETTE_24 CONTACTS_1 RANGEE_FEMELLE_DROITE
designator J?  Type: F_D_24  (hidden comment: BARRETTE_24 CONTACTS_1 RANGEE_FEMELLE_DROITE)
signal-integrity model Connector
footprint BARRETTE_24_F_D (BARRETTE 24 CONTACTS ; 1 RANGEE ; DROITE ; FEMELLE ; ESPACEMENT BROCHES = 2.54 mm)
pins: 1, 2, 3, 4, 5, 6, 7, 8, 9, 10, 11, 12, 13, 14, 15, 16, 17, 18, 19, 20, 21, 22, 23, 24

## BARRETTE_24 CONTACTS_1 RANGEE_MALE_COUDEE
designator J?  Type: M_C_24  (hidden comment: BARRETTE_24 CONTACTS_1 RANGEE_MALE_COUDEE)
signal-integrity model Connector
footprint BARRETTE_24_M_C (BARRETTE 24 CONTACTS ; 1 RANGEE ; COUDEE ; MALE ; ESPACEMENT BROCHES = 2.54 mm)
pins: 1, 2, 3, 4, 5, 6, 7, 8, 9, 10, 11, 12, 13, 14, 15, 16, 17, 18, 19, 20, 21, 22, 23, 24

## BARRETTE_24 CONTACTS_1 RANGEE_MALE_DROITE
designator J?  Type: M_D_24  (hidden comment: BARRETTE_24 CONTACTS_1 RANGEE_MALE_DROITE)
signal-integrity model Connector
footprint BARRETTE_24_M_D (BARRETTE 24 CONTACTS ; 1 RANGEE ; DROITE ; MALE ; ESPACEMENT BROCHES = 2.54 mm)
pins: 1, 2, 3, 4, 5, 6, 7, 8, 9, 10, 11, 12, 13, 14, 15, 16, 17, 18, 19, 20, 21, 22, 23, 24

## BARRETTE_24 CONTACTS_2 RANGEES_FEMELLE_DROITE
designator J?  Type: F_D_24X2  (hidden comment: BARRETTE_24 CONTACTS_2 RANGEES_FEMELLE_DROITE)
signal-integrity model Connector
footprint BARRETTE_24X2_F_D (BARRETTE 24 CONTACTS ; 2 RANGEES ; DROITE ; FEMELLE ; ESPACEMENT BROCHES = 2.54 mm)
pins: 1, 2, 3, 4, 5, 6, 7, 8, 9, 10, 11, 12, 13, 14, 15, 16, 17, 18, 19, 20, 21, 22, 23, 24, 25, 26, 27, 28, 29, 30, 31, 32, 33, 34, 35, 36, 37, 38, 39, 40, 41, 42, 43, 44, 45, 46, 47, 48

## BARRETTE_24 CONTACTS_2 RANGEES_MALE_COUDEE
designator J?  Type: M_C_24X2  (hidden comment: BARRETTE_24 CONTACTS_2 RANGEES_MALE_COUDEE)
signal-integrity model Connector
footprint BARRETTE_24X2_M_C (BARRETTE 24 CONTACTS ; 2 RANGEES ; COUDEE ; MALE ; ESPACEMENT BROCHES = 2.54 mm)
pins: 1, 2, 3, 4, 5, 6, 7, 8, 9, 10, 11, 12, 13, 14, 15, 16, 17, 18, 19, 20, 21, 22, 23, 24, 25, 26, 27, 28, 29, 30, 31, 32, 33, 34, 35, 36, 37, 38, 39, 40, 41, 42, 43, 44, 45, 46, 47, 48

## BARRETTE_24 CONTACTS_2 RANGEES_MALE_DROITE
designator J?  Type: M_D_24X2  (hidden comment: BARRETTE_24 CONTACTS_2 RANGEES_MALE_DROITE)
signal-integrity model Connector
footprint BARRETTE_24X2_M_D (BARRETTE 24 CONTACTS ; 2 RANGEES ; DROITE ; MALE ; ESPACEMENT BROCHES = 2.54 mm)
pins: 1, 2, 3, 4, 5, 6, 7, 8, 9, 10, 11, 12, 13, 14, 15, 16, 17, 18, 19, 20, 21, 22, 23, 24, 25, 26, 27, 28, 29, 30, 31, 32, 33, 34, 35, 36, 37, 38, 39, 40, 41, 42, 43, 44, 45, 46, 47, 48

## BARRETTE_CMS_2 CONTACTS_2 RANGEES_MALE_DROITE
designator J?  Type: CMS_M_D_2X2  (hidden comment: BARRETTE_CMS_2 CONTACTS_2 RANGEES_MALE_DROITE)
signal-integrity model Connector
pins: 1, 2, 3, 4

## BARRETTE_CMS_4 CONTACTS_2 RANGEES_MALE_DROITE
designator J?  Type: CMS_M_D_4X2  (hidden comment: BARRETTE_CMS_4 CONTACTS_2 RANGEES_MALE_DROITE)
signal-integrity model Connector
pins: 1, 2, 3, 4, 5, 6, 7, 8

## BARRETTE_CMS_8 CONTACTS_2 RANGEES_MALE_DROITE
designator J?, comment Type: CMS_M_D_8X2  (hidden comment: BARRETTE CMS 8 CONTACTS 2 RANGEES MALE DROITE)
signal-integrity model Connector
pins: 1, 2, 3, 4, 5, 6, 7, 8, 9, 10, 11, 12, 13, 14, 15, 16

## BNC_COUDEE_CARREE_10.1
designator J?  Type: BNC_C_CAR_10.1  (hidden comment: BNC_COUDEE_CARREE_10.1)
EMBASE BNC COUDEE CARREE 50r - ESPACEMENT BROCHES GND=10.1
signal-integrity model Connector
footprint BNC_C_CAR_10.1 (EMBASE BNC CARREE ;  COUDEE ; 50R ; DIAMETRE = 9.7 mm ; ESPACEMENT BROCHES GND = 10.1 mm)
pins: 1 X, 2 Y
text: SIGNAL; GND

## BNC_DROITE_CARREE_10.1
designator J?  Type: BNC_D_CAR_10.1  (hidden comment: BNC_DROITE_CARREE_10.1)
EMBASE BNC DROITE CARREE 50r - ESPACEMENT BROCHES GND=10.1
signal-integrity model Connector
footprint BNC_D_CAR_10.1 (EMBASE BNC CARREE ;  DROITE ; 50R ; DIAMETRE = 9.7 mm ; ESPACEMENT BROCHES GND = 10.1 mm)
pins: 1 X, 2 Y
text: SIGNAL; GND

## BNC_DROITE_RONDE_6.34
designator J?  Type: BNC_D_R_6.34  (hidden comment: BNC_DROITE_RONDE_6.34)
EMBASE BNC DROITE RONDE 50r - ESPACEMENT BROCHES GND=6.34
signal-integrity model Connector
footprint BNC_D_ROND_6.34 (EMBASE BNC RONDE ;  DROITE ; 50R ; DIAMETRE = 9.7 mm ; ESPACEMENT BROCHES GND = 6.34 mm)
pins: 1 X, 2 Y
text: SIGNAL; GND

## BNC_ISOLEE_COUDEE
designator J?  Type: BNC_ISO_C  (hidden comment: BNC_ISOLEE_COUDEE)
EMBASE BNC ISOLEE COUDEE
signal-integrity model Connector
footprint BNC_C_ISOL (EMBASE BNC CARREE; ISOLEE ;  COUDEE ; 50R ; DIAMETRE = 9.7 mm)
pins: 1 X, 2 Y
text: SIGNAL; GND

## BORNIER2_DROIT_A VIS
designator J?, comment Type: BORNIER2_D  (hidden comment: BORNIER2 DROIT A VIS)
BORNIER 2 PLOTS DROIT A VIS 5.08mm
footprint BORNIER2_A_VIS (BORNIER 2 PLOTS A VIS ; VERTICAL ; ESPACEMENT BROCHES = 5.08mm)
pins: 1, 2

## BORNIER2_MALE_COUDE
designator J?, comment Type: BORNIER2_M_C  (hidden comment: BORNIER2 MALE COUDE)
BORNIER 2 PLOTS MALE COUDE - ENFICHAGE PARALLELE
footprint BORNIER2_M_C (BORNIER 2 PLOTS ; MALE ; COUDE ; ESPACEMENT BROCHES = 5.08mm)
pins: 1, 2

## BORNIER3_DROIT_A VIS
designator J?, comment Type: BORNIER3_D  (hidden comment: BORNIER3 DROIT A VIS)
BORNIER 3 PLOTS DROIT A VIS 5.08mm
footprint BORNIER3_A_VIS (BORNIER 3 PLOTS A VIS ; VERTICAL ; ESPACEMENT BROCHES = 5.08mm)
pins: 1, 2, 3

## BORNIER3_MALE_COUDE
designator J?, comment Type: BORNIER3_M_C  (hidden comment: BORNIER3 MALE COUDE)
BORNIER 3 PLOTS MALE COUDE - ENFICHAGE PARALLELE
footprint BORNIER3_M_C (BORNIER 3 PLOTS ; MALE ; COUDE ; ESPACEMENT BROCHES = 5.08mm)
pins: 1, 2, 3

## CONNECTEUR_CARTE SD_REVERSE
designator SD?, comment Type: SD_REV  (hidden comment: CONNECTEUR_CARTE_SD_REVERSE)
CONNECTEUR DE CARTE SD TYPE REVERSE
footprint CONNECTEUR_CARTE_SD_TYPE_REVERSE (CONNECTEUR MEMOIRE SD REVERSE ; 9 CONTACTS ; PAS = 2.5 mm)
pins: 1, 2, 3, 4, 5, 6, 7, 8, 9, 10 CD, 11 CD/WP
text: CONNECTEUR CARTE; SD; REVERSE TYPE

## CONNECTEUR_CARTE SD_STANDARD
designator SD?, comment Type: SD_STD  (hidden comment: CARTE_SD_STANDARD)
CONNECTEUR DE CARTE SD TYPE STANDARD
footprint CONNECTEUR_CARTE_SD_TYPE_STANDARD (CONNECTEUR MEMOIRE SD STANDARD ; 9 CONTACTS ; PAS = 2.5 mm)
pins: 1, 2, 3, 4, 5, 6, 7, 8, 9, 10 CDS, 11 WPS, 12 CDS/WPS
text: CONNECTEUR CARTE; SD; STANDARD TYPE

## DIN4
designator J?
EMBASE DIN 4 BROCHES; Type: DIN4
footprint DIN4 (EMBASE DIN ; 4 CONTACTS ; FEMELLE ; COUDE)
pins: 1, 2, 3, 4

## DIN5
designator J?
EMBASE DIN 5 BROCHES; Type: DIN5
footprint DIN5 (EMBASE DIN ; 5 CONTACTS ; FEMELLE ; COUDE)
pins: 1, 2, 3, 4, 5

## DIN6
designator J?
EMBASE DIN 6 BROCHES; Type: DIN6
footprint DIN6 (EMBASE DIN ; 6 CONTACTS ; FEMELLE ; COUDE)
pins: 1, 2, 3, 4, 5, 6

## DIN6_MONTAGE_PANNEAU
designator J?  Type: DIN6_MP  (hidden comment: DIN6_MONTAGE_PANNEAU)
EMBASE DIN 6 BROCHES POUR MONTAGE PANNEAU
footprint DIN6_F_MONTAGE_PANNEAU (CONNECTEUR DIN ; 6 CONTACTS ; FEMELLE ; MONTAGE PANNEAU ; CONNEXIONS AVEC FILS SUR PCB)
pins: 1, 2, 3, 4, 5, 6

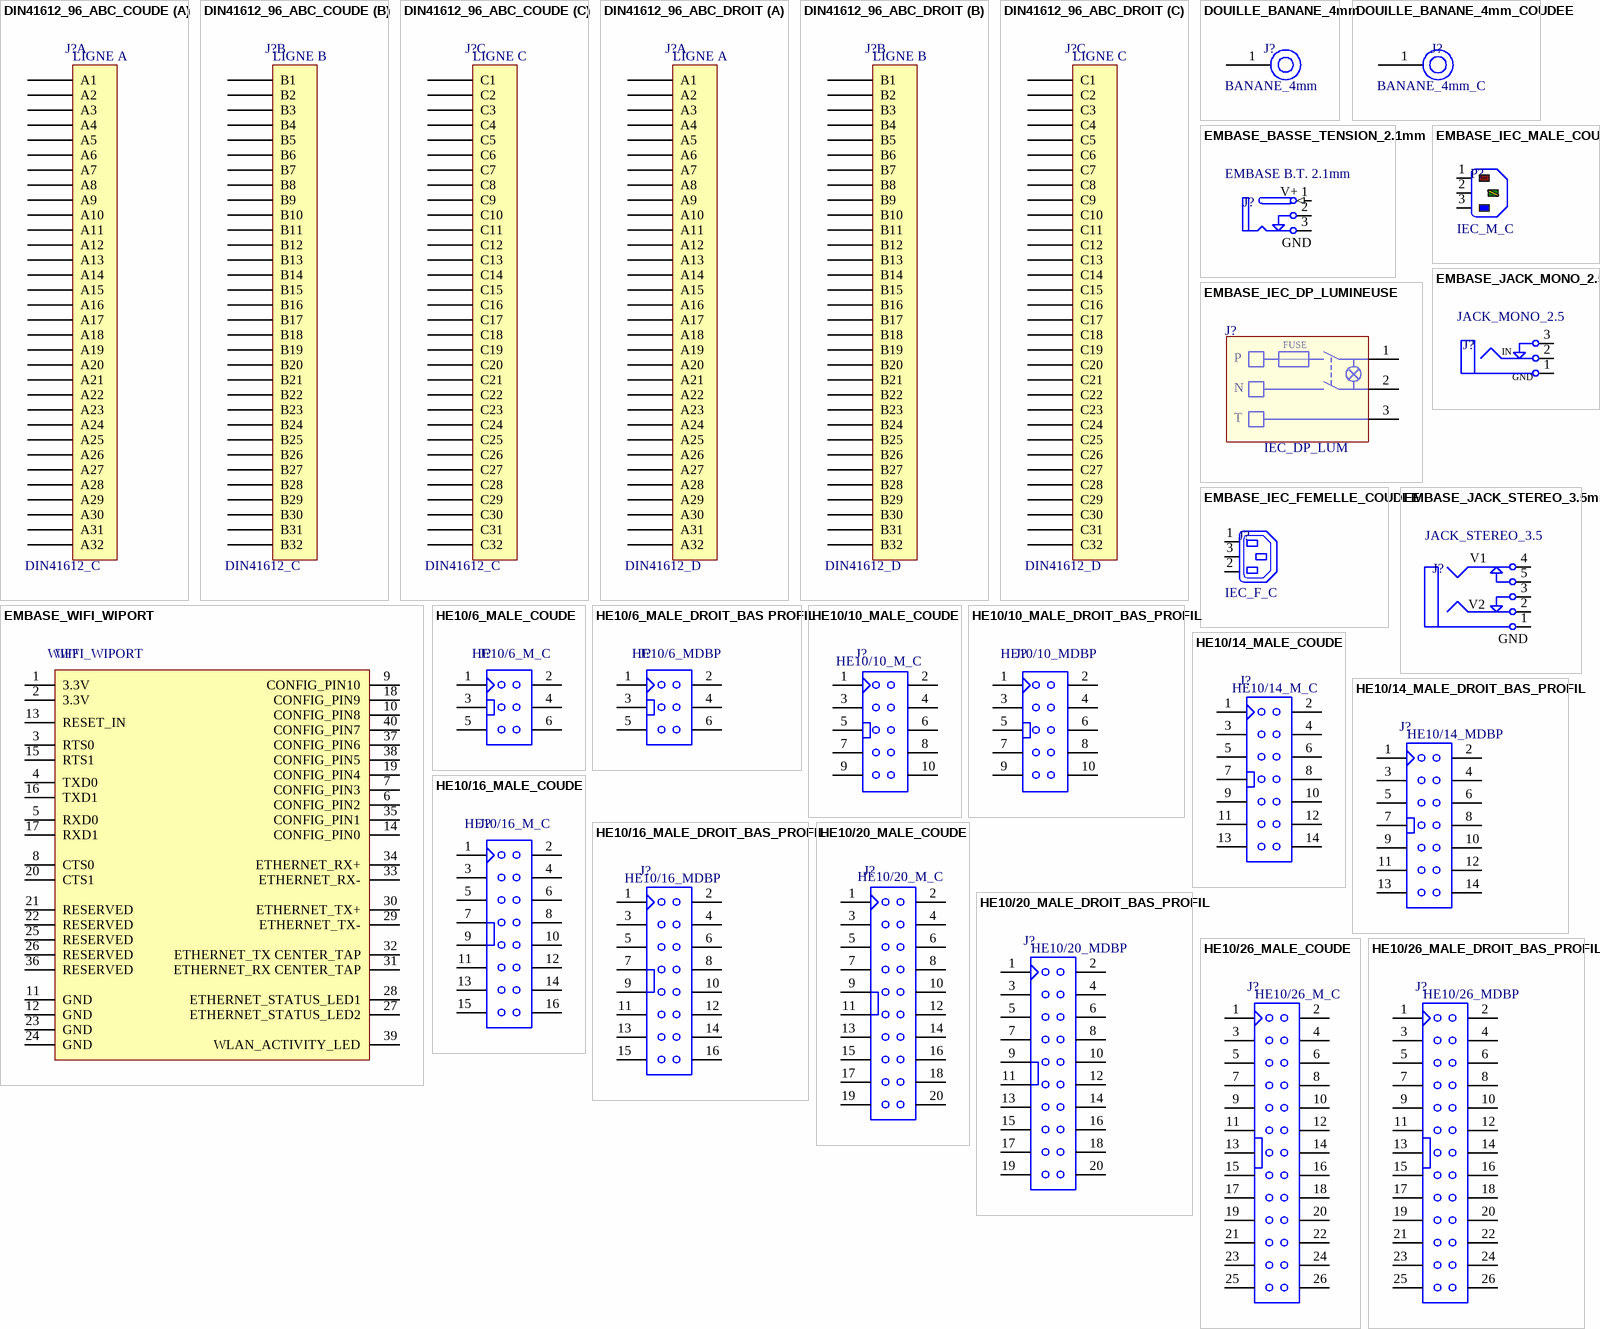
[diagram p3: symbols DIN41612_96_ABC_COUDE to HE10/26_MALE_DROIT_BAS_PROFIL]

## DIN41612_96_ABC_COUDE
designator J?  Type: DIN41612_C  (hidden comment: DIN41612_96_ABC_COUDE)
DIN41612_3 LIGNES_96 CONTACTS_ABC_COUDE
footprint DIN41612_ABC_96_C (DIN41612 ; 96 CONTACTS ; 3 RANGEES; MALE ; COUDE ; ESPACEMENT BROCHES = 2.54 mm)
part A pins: A1, A2, A3, A4, A5, A6, A7, A8, A9, A10, A11, A12, A13, A14, A15, A16, A17, A18, A19, A20, A21, A22, A23, A24, A25, A26, A27, A28, A29, A30, A31, A32
part B pins: B1, B2, B3, B4, B5, B6, B7, B8, B9, B10, B11, B12, B13, B14, B15, B16, B17, B18, B19, B20, B21, B22, B23, B24, B25, B26, B27, B28, B29, B30, B31, B32
part C pins: C1, C2, C3, C4, C5, C6, C7, C8, C9, C10, C11, C12, C13, C14, C15, C16, C17, C18, C19, C20, C21, C22, C23, C24, C25, C26, C27, C28, C29, C30, C31, C32
part A text: LIGNE A
part B text: LIGNE B
part C text: LIGNE C

## DIN41612_96_ABC_DROIT
designator J?  Type: DIN41612_D  (hidden comment: DIN41612_96_ABC_DROIT)
DIN41612_3 LIGNES_96 CONTACTS_ABC_DROIT
footprint DIN41612_ABC_96 (DIN41612 ; 96 CONTACTS ; 3 RANGEES ; MALE ; ESPACEMENT BROCHES = 2.54 mm)
part A pins: A1, A2, A3, A4, A5, A6, A7, A8, A9, A10, A11, A12, A13, A14, A15, A16, A17, A18, A19, A20, A21, A22, A23, A24, A25, A26, A27, A28, A29, A30, A31, A32
part B pins: B1, B2, B3, B4, B5, B6, B7, B8, B9, B10, B11, B12, B13, B14, B15, B16, B17, B18, B19, B20, B21, B22, B23, B24, B25, B26, B27, B28, B29, B30, B31, B32
part C pins: C1, C2, C3, C4, C5, C6, C7, C8, C9, C10, C11, C12, C13, C14, C15, C16, C17, C18, C19, C20, C21, C22, C23, C24, C25, C26, C27, C28, C29, C30, C31, C32
part A text: LIGNE A
part B text: LIGNE B
part C text: LIGNE C

## DOUILLE_BANANE_4mm
designator J?, comment Type: BANANE_4mm  (hidden comment: DOUILLE BANANE 4mm)
DOUILLE BANANE 4 mm
footprint DOUILLE_BANANE_4mm (DOUILLE BANANE ; DIAMETRE PASSAGE CONTACT = 4 mm ; DIAMETRE PERCAGE = 6 mm)
pins: 1

## DOUILLE_BANANE_4mm_COUDEE
designator J?, comment Type: BANANE_4mm_C  (hidden comment: DOUILLE BANANE 4mm COUDEE)
DOUILLE BANANE 4 mm COUDEE
footprint DOUILLE_BANANE_4MM_COUDEE
pins: 1

## EMBASE_BASSE_TENSION_2.1mm
designator J?  Type: EMBASE B.T. 2.1mm  (hidden comment: EMBASE_BASSE_TENSION_2.1mm)
EMBASE BASSE TENSION 2.1mm
signal-integrity model JACK Socket
footprint EMBASE_BASSE_TENSION_2.1mm (EMBASE D'ALIMENTATION BASSE TENSION ; FEMELLE ; CONTACT REPOS ENTRE 2/3 ; MONTAGE PCB ; COUDE ; ESPACEMENT BROCHES = 6.2mm/5.08mm)
pins: 1 (in), 2, 3
text: V+; GND

## EMBASE_IEC_DP_LUMINEUSE
designator J?  Type: IEC_DP_LUM  (hidden comment: EMBASE_IEC_DP_LUMINEUSE)
EMBASE IEC MALE AVEC FUSIBLE ET INTERRUPTEUR LUMINEUX
pins: 1 PHASE, 2 NEUTRE, 3 TERRE
text: FUSE; P; N; T

## EMBASE_IEC_FEMELLE_COUDEE
designator J?  Type: IEC_F_C  (hidden comment: EMBASE_IEC_FEMELLE_COUDEE)
EMBASE IEC FEMELLE POUR MONTAGE SUR C.I. COUDEE
footprint EMBASE_IEC_F_C
pins: 1 L (power) "Live (Active)", 2 N (power) "Neutral", 3 E (power) "Earth (Ground)"

## EMBASE_IEC_MALE_COUDEE
designator P?  Type: IEC_M_C  (hidden comment: EMBASE_IEC_MALE_COUDEE)
EMBASE IEC MALE POUR MONTAGE SUR C.I. COUDEE
footprint EMBASE_IEC_M_C
pins: 1 L (power) "Live (Active)", 2 E (power) "Earth (Ground)", 3 N (power) "Neutral"

## EMBASE_JACK_MONO_2.5mm
designator J?  Type: JACK_MONO_2.5  (hidden comment: EMBASE_JACK_MONO_2.5mm)
EMBASE JACK MONO 2.5mm
signal-integrity model Connector
footprint EMBASE_JACK_MONO_2.5 mm (EMBASE JACK MONO 2.5 mm ; 3 BROCHES ; 1 CONTACT ET 1 GND ; FEMELLE ; COUDEE)
pins: 1, 2, 3
text: IN; GND

## EMBASE_JACK_STEREO_3.5mm
designator J?  Type: JACK_STEREO_3.5  (hidden comment: EMBASE_JACK_STEREO_3.5mm)
EMBASE JACK STEREO 3.5mm
signal-integrity model Connector
footprint EMBASE_JACK_STEREO_3.5 mm (EMBASE JACK STEREO 3.5 mm ; 5 BROCHES ; 2 CONTACTS ET 1 GND ; FEMELLE ; COUDEE)
pins: 1, 2, 3, 4, 5
text: V1; V2; GND

## EMBASE_WIFI_WIPORT
designator WIF?, comment Type: WIFI_WIPORT  (hidden comment: EMBASE WIFI WIPORT)
footprint EMBASE_WIFI_WIPORT (Plug Straight with Vacuum pick up clip; 40 Position; Male; Pin spacing=1.00mm)
pins: 1 3.3V (power), 2 3.3V (power), 3 RTS0, 4 TXD0, 5 RXD0, 6 CONFIG_PIN2, 7 CONFIG_PIN3, 8 CTS0, 9 CONFIG_PIN10, 10 CONFIG_PIN8, 11 GND (power), 12 GND (power), 13 RESET_IN, 14 CONFIG_PIN0, 15 RTS1, 16 TXD1, 17 RXD1, 18 CONFIG_PIN9, 19 CONFIG_PIN4, 20 CTS1, 21 RESERVED, 22 RESERVED, 23 GND (power), 24 GND (power), 25 RESERVED, 26 RESERVED, 27 ETHERNET_STATUS_LED2, 28 ETHERNET_STATUS_LED1, 29 ETHERNET_TX-, 30 ETHERNET_TX+, 31 ETHERNET_RX CENTER_TAP, 32 ETHERNET_TX CENTER_TAP, 33 ETHERNET_RX-, 34 ETHERNET_RX+, 35 CONFIG_PIN1, 36 RESERVED, 37 CONFIG_PIN6, 38 CONFIG_PIN5, 39 WLAN_ACTIVITY_LED, 40 CONFIG_PIN7

## HE10/6_MALE_COUDE
designator J?  Type: HE10/6_M_C  (hidden comment: HE10/6_MALE_COUDE)
EMBASE HE10/6 MALE COUDE
footprint HE10/6_M_C (HE10 ; 6 CONTACTS ; MALE ; COUDE ; ESPACEMENTS BROCHES = 2.54 mm)
pins: 1, 2, 3, 4, 5, 6

## HE10/6_MALE_DROIT_BAS PROFIL
designator J?  Type: HE10/6_MDBP  (hidden comment: HE10/6_MALE_DROIT_BAS PROFIL)
EMBASE HE10/6 MALE DROIT BAS PROFIL
footprint HE10/6_M_D_BP (HE10 ; 6 CONTACTS ; MALE ;  DROIT; BAS PROFIL ; ESPACEMENTS BROCHES = 2.54 mm)
pins: 1, 2, 3, 4, 5, 6

## HE10/10_MALE_COUDE
designator J?  Type: HE10/10_M_C  (hidden comment: HE10/10_MALE_COUDE)
EMBASE HE10/10 MALE COUDE
footprint HE10/10_M_C (HE10 ; 10 CONTACTS ; MALE ; COUDE ; ESPACEMENTS BROCHES = 2.54 mm)
pins: 1, 2, 3, 4, 5, 6, 7, 8, 9, 10

## HE10/10_MALE_DROIT_BAS_PROFIL
designator J?  Type: HE10/10_MDBP  (hidden comment: HE10/10_MALE_DROIT_BAS_PROFIL)
EMBASE HE10/10 MALE DROIT BAS PROFIL
footprint HE10/10_M_D_BP (HE10 ; 10 CONTACTS ; MALE ;  DROIT; BAS PROFIL ; ESPACEMENTS BROCHES = 2.54 mm)
pins: 1, 2, 3, 4, 5, 6, 7, 8, 9, 10

## HE10/14_MALE_COUDE
designator J?  Type: HE10/14_M_C  (hidden comment: HE10/14_MALE_COUDE)
EMBASE HE10/14_MALE_COUDE
footprint HE10/14_M_C (HE10 ; 14 CONTACTS ; MALE ; COUDE ; ESPACEMENTS BROCHES = 2.54 mm)
pins: 1, 2, 3, 4, 5, 6, 7, 8, 9, 10, 11, 12, 13, 14

## HE10/14_MALE_DROIT_BAS_PROFIL
designator J?  Type: HE10/14_MDBP  (hidden comment: HE10/14_MALE_DROIT_BAS_PROFIL)
EMBASE HE10/14_MALE_DROIT_BAS_PROFIL
footprint HE10/14_M_D_BP (HE10 ; 14 CONTACTS ; MALE ;  DROIT; BAS PROFIL ; ESPACEMENTS BROCHES = 2.54 mm)
pins: 1, 2, 3, 4, 5, 6, 7, 8, 9, 10, 11, 12, 13, 14

## HE10/16_MALE_COUDE
designator J?  Type: HE10/16_M_C  (hidden comment: HE10/16_MALE_COUDE)
EMBASE HE10/16_MALE_COUDE
footprint HE10/16_M_C (HE10 ; 16 CONTACTS ; MALE ; COUDE ; ESPACEMENTS BROCHES = 2.54 mm)
pins: 1, 2, 3, 4, 5, 6, 7, 8, 9, 10, 11, 12, 13, 14, 15, 16

## HE10/16_MALE_DROIT_BAS_PROFIL
designator J?  Type: HE10/16_MDBP  (hidden comment: HE10/16_MALE_DROIT_BAS_PROFIL)
EMBASE HE10/16_MALE_DROIT_BAS_PROFIL
footprint HE10/16_M_D_B P (HE10 ; 16 CONTACTS ; MALE ;  DROIT; BAS PROFIL ; ESPACEMENTS BROCHES = 2.54 mm)
pins: 1, 2, 3, 4, 5, 6, 7, 8, 9, 10, 11, 12, 13, 14, 15, 16

## HE10/20_MALE_COUDE
designator J?  Type: HE10/20_M_C  (hidden comment: HE10/20_MALE_COUDE)
EMBASE HE10/20 MALE COUDE
footprint HE10/20_M_C (HE10 ; 20 CONTACTS ; MALE ;  COUDE; ESPACEMENTS BROCHES = 2.54 mm)
pins: 1, 2, 3, 4, 5, 6, 7, 8, 9, 10, 11, 12, 13, 14, 15, 16, 17, 18, 19, 20

## HE10/20_MALE_DROIT_BAS_PROFIL
designator J?  Type: HE10/20_MDBP  (hidden comment: HE10/20_MALE_DROIT_BAS_PROFIL)
EMBASE HE10/20 MALE DROIT BAS PROFIL
footprint HE10/20_M_D_BP (HE10 ; 20 CONTACTS ; MALE ; DROIT; BAS PROFIL ; ESPACEMENTS BROCHES = 2.54 mm)
pins: 1, 2, 3, 4, 5, 6, 7, 8, 9, 10, 11, 12, 13, 14, 15, 16, 17, 18, 19, 20

## HE10/26_MALE_COUDE
designator J?  Type: HE10/26_M_C  (hidden comment: HE10/26_MALE_COUDE)
EMBASE HE10/26 MALE COUDE
footprint HE10/26_M_C (HE10 ; 26 CONTACTS ; MALE ; COUDE ; ESPACEMENTS BROCHES = 2.54 mm)
pins: 1, 2, 3, 4, 5, 6, 7, 8, 9, 10, 11, 12, 13, 14, 15, 16, 17, 18, 19, 20, 21, 22, 23, 24, 25, 26

## HE10/26_MALE_DROIT_BAS_PROFIL
designator J?  Type: HE10/26_MDBP  (hidden comment: HE10/26_MALE_DROIT_BAS_PROFIL)
EMBASE HE10/26 MALE DROIT BAS PROFIL
footprint HE10/26_M_D_BP (HE10 ; 26 CONTACTS ; MALE ; DROIT; BAS PROFIL ; ESPACEMENTS BROCHES = 2.54 mm)
pins: 1, 2, 3, 4, 5, 6, 7, 8, 9, 10, 11, 12, 13, 14, 15, 16, 17, 18, 19, 20, 21, 22, 23, 24, 25, 26

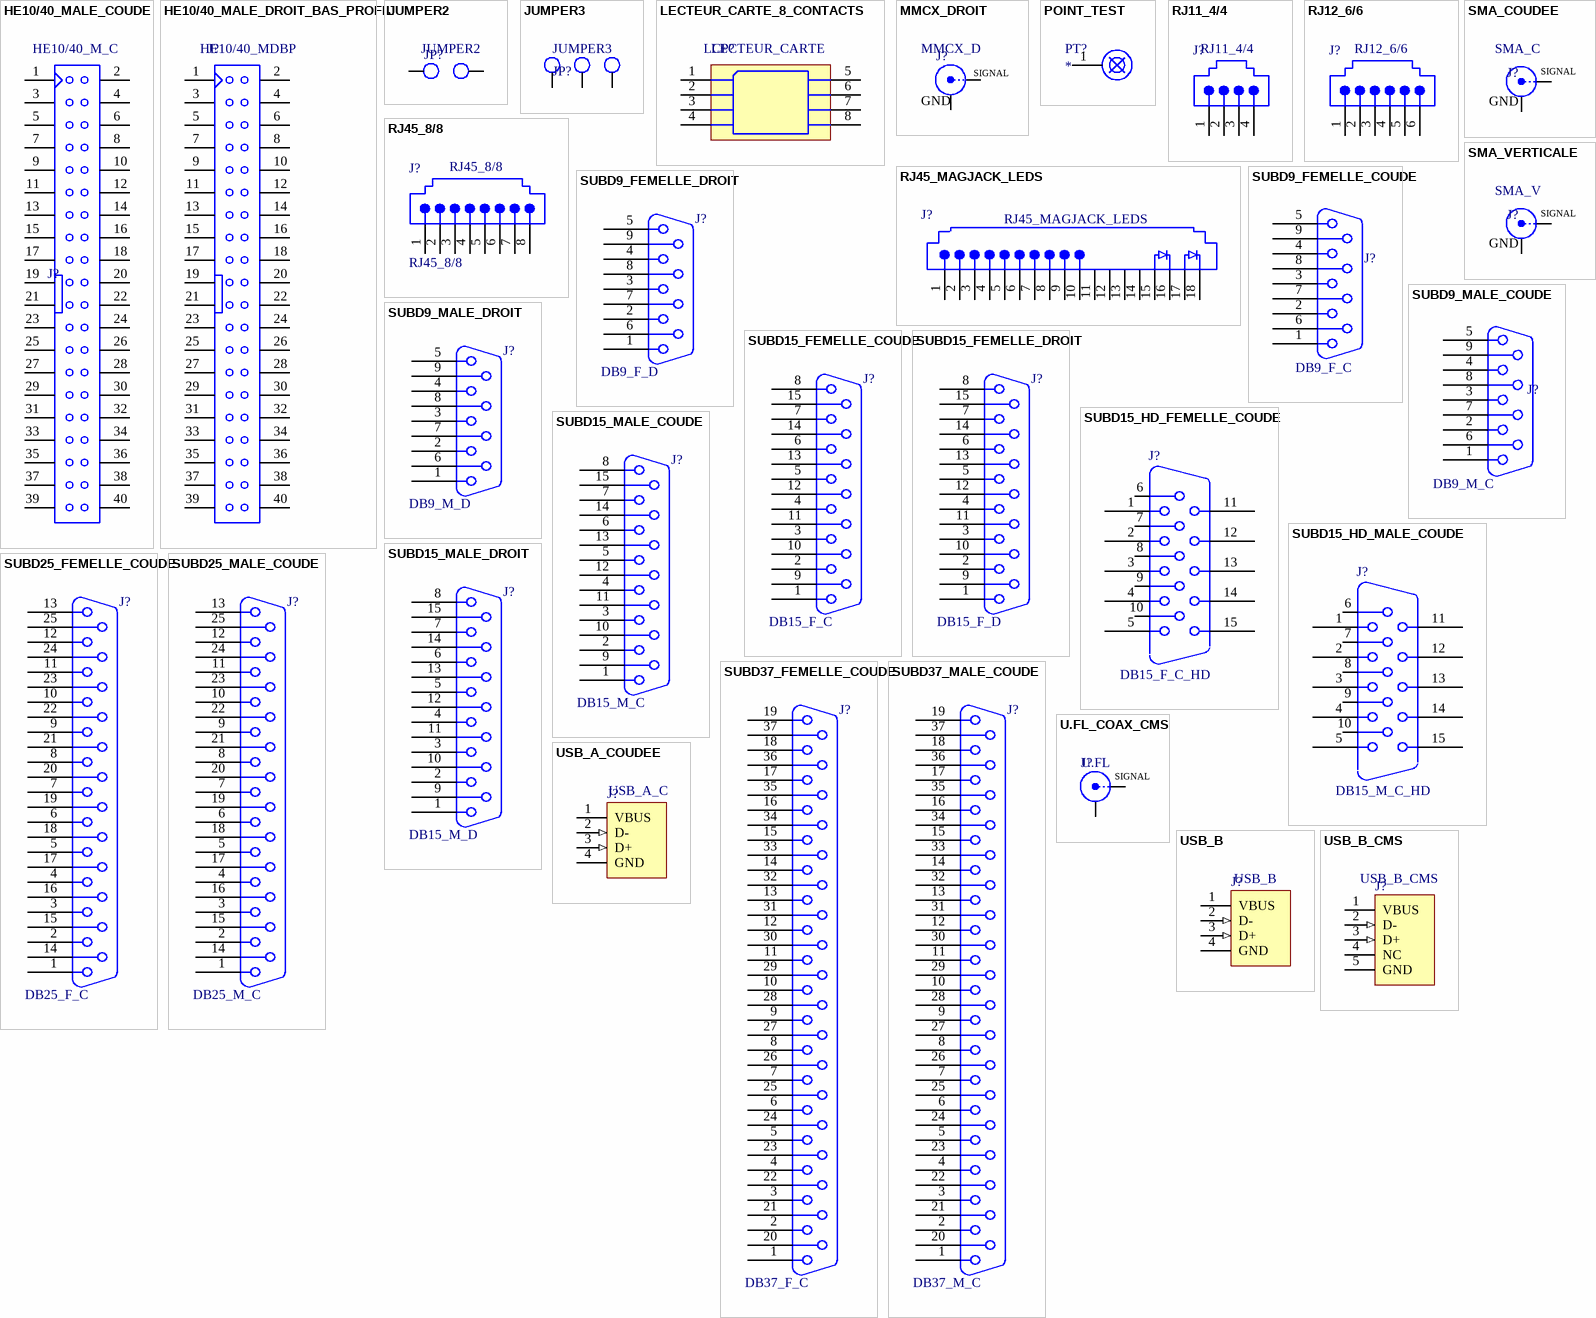
[diagram p4: symbols HE10/40_MALE_COUDE to USB_B_CMS]

## HE10/40_MALE_COUDE
designator J?  Type: HE10/40_M_C  (hidden comment: HE10/40_MALE_COUDE)
EMBASE HE10/40 MALE COUDE
footprint HE10/40_M_C (HE10 ; 40 CONTACTS ; MALE ; COUDE ; ESPACEMENTS BROCHES = 2.54 mm)
pins: 1, 2, 3, 4, 5, 6, 7, 8, 9, 10, 11, 12, 13, 14, 15, 16, 17, 18, 19, 20, 21, 22, 23, 24, 25, 26, 27, 28, 29, 30, 31, 32, 33, 34, 35, 36, 37, 38, 39, 40

## HE10/40_MALE_DROIT_BAS_PROFIL
designator J?  Type: HE10/40_MDBP  (hidden comment: HE10/40_MALE_DROIT_BAS_PROFIL)
EMBASE HE10/40 MALE DROIT BAS PROFIL
footprint HE10/40_M_D_BP (HE10 ; 40 CONTACTS ; MALE ; DROIT; BAS PROFIL ; ESPACEMENTS BROCHES = 2.54 mm)
pins: 1, 2, 3, 4, 5, 6, 7, 8, 9, 10, 11, 12, 13, 14, 15, 16, 17, 18, 19, 20, 21, 22, 23, 24, 25, 26, 27, 28, 29, 30, 31, 32, 33, 34, 35, 36, 37, 38, 39, 40

## JUMPER2
designator JP?
BARRETTE 2 CONTACTS 1 RANGEE MALE DROITE; Type: JUMPER2
footprint BARRETTE_2_M_D (BARRETTE 2 CONTACTS ; 1 RANGEE ; DROITE ; MALE ; ESPACEMENT BROCHES = 2.54 mm)
pins: 1, 2

## JUMPER3
designator JP?
BARRETTE 3 CONTACTS 1 RANGEE MALE DROITE; Type: JUMPER3
footprint BARRETTE_3_M_D (BARRETTE 3 CONTACTS ; 1 RANGEE ; DROITE ; MALE ; ESPACEMENT BROCHES = 2.54 mm)
pins: 1, 2, 3

## LECTEUR_CARTE_8_CONTACTS
designator LCP?  Type: LECTEUR_CARTE  (hidden comment: LECTEUR_CARTE_8_CONTACTS)
LECTEUR DE CARTE A PUCE 8 CONTACTS
footprint CONNECTEUR_CARTE_8_CONTACTS_FCI (CONNECTEUR DE CARTE ; 8 CONTACTS ; MALE ; A SOUDER ; PAS = 2.54 mm)
pins: 1, 2, 3, 4, 5, 6, 7, 8

## MMCX_DROIT
designator J?  Type: MMCX_D  (hidden comment: MMCX_DROIT)
EMBASE MMCX DROIT
signal-integrity model Connector
footprint MMCX_D_F (CONNECTEUR MMCX ; COAX ; DROIT ; FEMELLE ; ESPACEMENT BROCHES GND = 2.54 mm)
pins: 1 X, 2 Y
text: SIGNAL; GND

## POINT_TEST
designator PT?
POINT TEST
footprint POINT_TEST (PASTILLE TRAVERSANTE ; DIAMETRE = 2.5 mm ; DIAMETRE PERCAGE = 1.3 mm)
pins: 1 3

## RJ11_4/4
designator J?
EMBASE RJ11_4/4 COUDEE; Type: RJ11_4/4
signal-integrity model Modular Jack
footprint RJ11_4/4 (RJ11; 4P/4C; BAS PROFIL ; COUDE ; ESPACEMENT BROCHES = 2.54mm)
pins: 1, 2, 3, 4

## RJ12_6/6
designator J?
EMBASE RJ12_6/6 COUDEE; Type: RJ12_6/6
signal-integrity model Modular Jack
footprint RJ12_6/6 (RJ12 ; 6P/6C ; BAS PROFIL ; COUDE ; ESPACEMENT BROCHES = 2.54 mm)
pins: 1, 2, 3, 4, 5, 6

## RJ45_8/8
designator J?
EMBASE RJ45_8/8 COUDEE; Type: RJ45_8/8
signal-integrity model Modular Jack
footprint RJ45_8/8 (RJ45 ; 8P/8C ; BAS PROFIL ; COUDE ; ESPACEMENT BROCHES = 2.54mm)
pins: 1, 2, 3, 4, 5, 6, 7, 8

## RJ45_MAGJACK_LEDS
designator J?
EMBASE RJ45_MAGJACK_LEDS; Type: RJ45_MAGJACK_LEDS
signal-integrity model Modular Jack
footprint RJ45_MAGJACK_LED
pins: 1, 2, 3, 4, 5, 6, 7, 8, 9, 10, 11, 12, 13, 14, 15, 16, 17, 18

## SMA_COUDEE
designator J?  Type: SMA_C  (hidden comment: SMA_COUDEE)
EMBASE SMA COUDEE
footprint SMA_C (SMA ; FEMELLE ; COUDEE ; 50R ; ESPACEMENT BROCHES GND = 5.08mm)
pins: 1 X, 2 Y
text: SIGNAL; GND

## SMA_VERTICALE
designator J?  Type: SMA_V  (hidden comment: SMA_VERTICALE)
EMBASE SMA VERTICALE
footprint SMA/SMB_D (SMA OU SMB ; DROIT ; FEMELLE ; TRAVERSANT ; 50R ; ESPACEMENTS BROCHES = 5.08 mm / 2.54 mm)
pins: 1 X, 2 Y
text: SIGNAL; GND

## SUBD9_FEMELLE_COUDE
designator J?  Type: DB9_F_C  (hidden comment: SUBD9_FEMELLE_COUDE)
CONNECTEUR SUBD9 FEMELLE COUDE
footprint SUBD9_F_C (SUBD; 9 CONTACTS ; FEMELLE ; COUDE ; ESPACEMENT BROCHES = 2.77 mm / 2.8 mm)
pins: 1, 2, 3, 4, 5, 6, 7, 8, 9

## SUBD9_FEMELLE_DROIT
designator J?  Type: DB9_F_D  (hidden comment: SUBD9_FEMELLE_DROIT)
CONNECTEUR SUBD9 FEMELLE DROIT
footprint SUBD9_F_D (SUBD ; 9 CONTACTS ; FEMELLE ; DROIT ; ESPACEMENTS BROCHES = 2.77 mm / 2.8 mm)
pins: 1, 2, 3, 4, 5, 6, 7, 8, 9

## SUBD9_MALE_COUDE
designator J?  Type: DB9_M_C  (hidden comment: SUBD9_MALE_COUDE)
CONNECTEUR SUBD9 MALE COUDE
footprint SUBD9_M_C (SUBD; 9 CONTACTS ; MALE ; COUDE ; PAS = 2.77 mm / 2.8 mm)
pins: 1, 2, 3, 4, 5, 6, 7, 8, 9

## SUBD9_MALE_DROIT
designator J?  Type: DB9_M_D  (hidden comment: SUBD9_MALE_DROIT)
CONNECTEUR SUBD9 MALE DROIT
footprint SUBD9_M_D (SUBD; 9 CONTACTS ; MALE ; PAS = 2.77 mm / 2.8 mm)
pins: 1, 2, 3, 4, 5, 6, 7, 8, 9

## SUBD15_FEMELLE_COUDE
designator J?  Type: DB15_F_C  (hidden comment: SUBD15_FEMELLE_COUDE)
CONNECTEUR SUBD15 FEMELLE COUDE
footprint SUBD15_F_C (SUBD ; 15 CONTACTS ; FEMELLE ; COUDE ; PAS = 2.77 mm / 2.8 mm)
pins: 1, 2, 3, 4, 5, 6, 7, 8, 9, 10, 11, 12, 13, 14, 15

## SUBD15_FEMELLE_DROIT
designator J?  Type: DB15_F_D  (hidden comment: SUBD15_FEMELLE_DROIT)
CONNECTEUR SUBD15 FEMELLE DROIT
footprint SUBD15_F_D (SUBD ; 15 CONTACTS ; FEMELLE ; DROITE ; PAS = 2.77 mm / 2.8 mm)
pins: 1, 2, 3, 4, 5, 6, 7, 8, 9, 10, 11, 12, 13, 14, 15

## SUBD15_HD_FEMELLE_COUDE
designator J?  Type: DB15_F_C_HD  (hidden comment: SUBD15_HD_FEMELLE_COUDE)
CONNECTEUR SUBD15 FEMELLE COUDE HAUTE DENSITE
footprint SUBD15_F_C_HD (SUBD ; 15 CONTACTS ; FEMELLE ; COUDE ; HAUTE DENSITE ; PAS = 2.29 mm / 2.54 mm)
pins: 1, 2, 3, 4, 5, 6, 7, 8, 9, 10, 11, 12, 13, 14, 15

## SUBD15_HD_MALE_COUDE
designator J?  Type: DB15_M_C_HD  (hidden comment: SUBD15_HD_MALE_COUDE)
CONNECTEUR SUBD15 MALE COUDE HAUTE DENSITE
footprint SUBD15_M_C_HD (SUBD ; 15 CONTACTS ; MALE ; COUDE ; HAUTE DENSITE ; PAS = 2.29 mm / 2.54 mm)
pins: 1, 2, 3, 4, 5, 6, 7, 8, 9, 10, 11, 12, 13, 14, 15

## SUBD15_MALE_COUDE
designator J?  Type: DB15_M_C  (hidden comment: SUBD15_MALE_COUDE)
CONNECTEUR SUBD15 MALE COUDE
footprint SUBD15_M_C (SUBD ; 15 CONTACTS ; MALE ; COUDE ; PAS = 2.77 mm / 2.8 mm)
pins: 1, 2, 3, 4, 5, 6, 7, 8, 9, 10, 11, 12, 13, 14, 15

## SUBD15_MALE_DROIT
designator J?  Type: DB15_M_D  (hidden comment: SUBD15_MALE_DROIT)
CONNECTEUR SUBD15 MALE DROIT
footprint SUBD15_M_D (SUBD ; 15 CONTACTS ; MALE ; PAS = 2.77 mm / 2.8 mm)
pins: 1, 2, 3, 4, 5, 6, 7, 8, 9, 10, 11, 12, 13, 14, 15

## SUBD25_FEMELLE_COUDE
designator J?  Type: DB25_F_C  (hidden comment: SUBD25_FEMELLE_COUDE)
CONNECTEUR SUBD25 FEMELLE COUDE
footprint SUBD25_F_C (SUBD ; 25 CONTACTS ; FEMELLE ; COUDE ; PAS = 2.77 mm / 2.8 mm)
pins: 1, 2, 3, 4, 5, 6, 7, 8, 9, 10, 11, 12, 13, 14, 15, 16, 17, 18, 19, 20, 21, 22, 23, 24, 25

## SUBD25_MALE_COUDE
designator J?  Type: DB25_M_C  (hidden comment: SUBD25_MALE_COUDE)
CONNECTEUR SUBD25 MALE COUDE
footprint SUBD25_M_C (SUBD ; 25 CONTACTS ; MALE ; COUDE ; PAS = 2.77 mm / 2.8 mm)
pins: 1, 2, 3, 4, 5, 6, 7, 8, 9, 10, 11, 12, 13, 14, 15, 16, 17, 18, 19, 20, 21, 22, 23, 24, 25

## SUBD37_FEMELLE_COUDE
designator J?  Type: DB37_F_C  (hidden comment: SUBD37_FEMELLE_COUDE)
CONNECTEUR SUBD37 FEMELLE COUDE
footprint SUBD37_F_C (SUBD ; 37 CONTACTS ; FEMELLE ; COUDE ; PAS = 2.77 mm / 2.8 mm)
pins: 1, 2, 3, 4, 5, 6, 7, 8, 9, 10, 11, 12, 13, 14, 15, 16, 17, 18, 19, 20, 21, 22, 23, 24, 25, 26, 27, 28, 29, 30, 31, 32, 33, 34, 35, 36, 37

## SUBD37_MALE_COUDE
designator J?  Type: DB37_M_C  (hidden comment: SUBD37_MALE_COUDE)
CONNECTEUR SUBD37 MALE COUDE
footprint SUBD37_M_C (SUBD ; 37 CONTACTS ; MALE ; COUDE ; PAS = 2.77 mm / 2.8 mm)
pins: 1, 2, 3, 4, 5, 6, 7, 8, 9, 10, 11, 12, 13, 14, 15, 16, 17, 18, 19, 20, 21, 22, 23, 24, 25, 26, 27, 28, 29, 30, 31, 32, 33, 34, 35, 36, 37

## U.FL_COAX_CMS
designator J?  Type: U.FL  (hidden comment: U.FL_COAX_CMS)
CONNECTEUR CMS COAXIAL U.FL
signal-integrity model Connector
footprint COAX_CMS_SMT_U.FL (MICRO COAXIAL CMS UFL ; FEMELLE ; DROIT)
pins: 1 X, 2 Y
text: SIGNAL

## USB_A_COUDEE
designator J?  Type: USB_A_C  (hidden comment: USB_A_COUDEE)
EMBASE USB TRAVERSANTE TYPE A COUDEE
signal-integrity model USB1.1
footprint USB_A_C (USB ; TYPE A ; COUDE ; PAS = 2 mm / 2.5 mm & 13.14 mm)
pins: 1 VBUS (power) "Power", 2 D- (in) "-DATA", 3 D+ (in) "+DATA", 4 GND (power) "Ground"

## USB_B
designator J?
EMBASE USB TRAVERSANTE TYPE B; Type: USB_B
signal-integrity model USB1.1
footprint USB_B_C (USB ; TYPE B ; 4 CONTACTS ; COUDE ;  PAS = 2 mm / 2.54 mm & 12.07 mm)
pins: 1 VBUS (power) "Power", 2 D- (in) "-DATA", 3 D+ (in) "+DATA", 4 GND (power) "Ground"

## USB_B_CMS
designator J?
EMBASE USB CMS TYPE B; Type: USB_B_CMS
signal-integrity model USB1.1
footprint USB_MINI_B (USB ; CMS ; TYPE B ; PAS = 0.8 mm)
pins: 1 VBUS (power) "Power", 2 D- (in) "-DATA", 3 D+ (in) "+DATA", 4 NC (power) "Ground", 5 GND (power) "Ground"